# Altium schematic symbol library 2.3 - STM32 F1系列单片机.SchLib: 209 symbols (part 6 of 9)
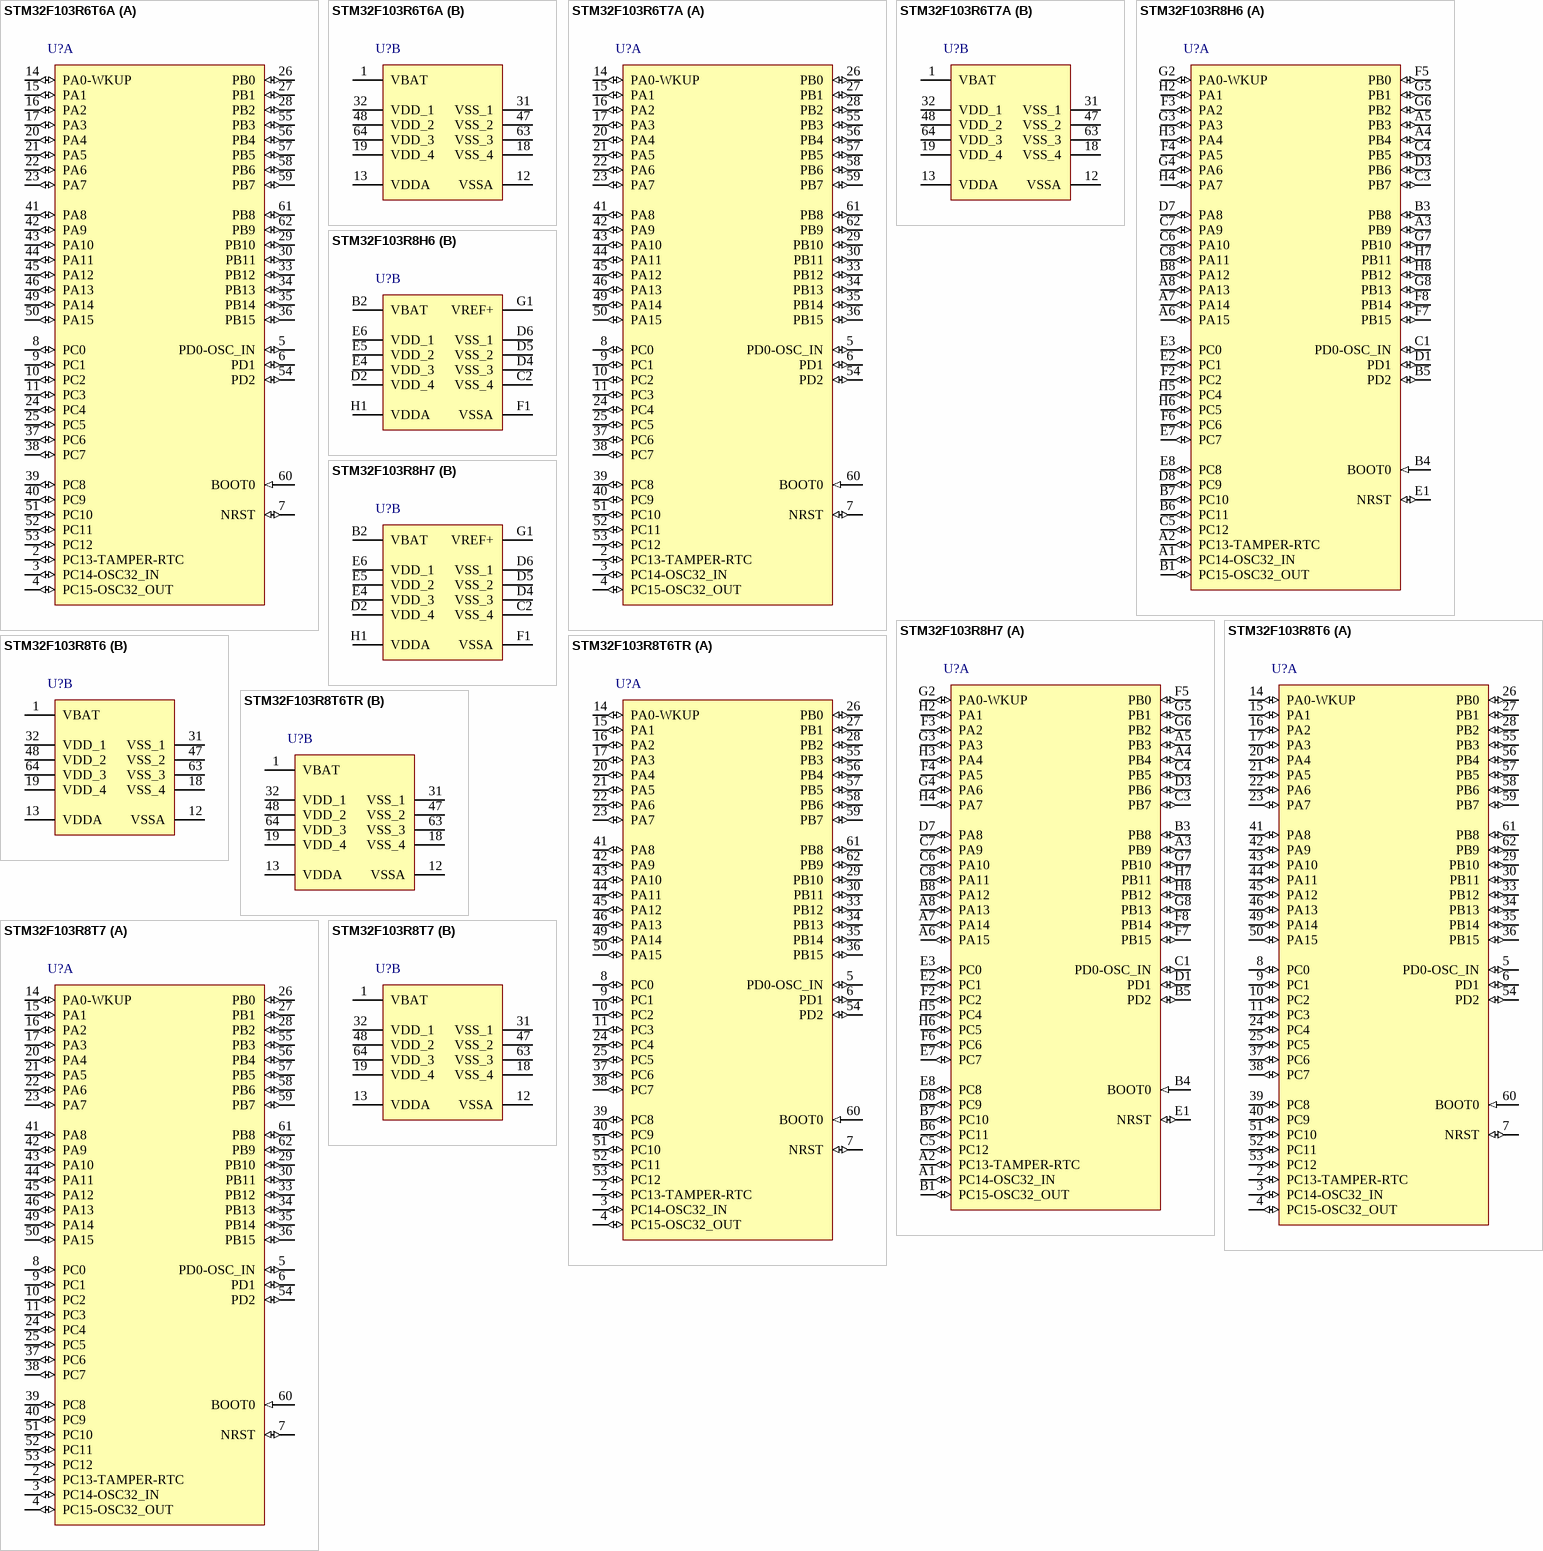
[diagram p47: symbols STM32F103R6T6A to STM32F103R8T7]

## STM32F103R8T6
designator U?
STM32 ARM-based 32-bit MCU Performance Line with 64 kB Flash, 20 kB Internal RAM, -40 to +85癈 Temperature, 64-Pin LQFP, Tray; DatasheetVersion: rev13.0, Apr-2011; PackageVersion: rev13, Apr-2011; PackageReference: LQFP64; PackageDescription: 64-Pin Low-Profile Quad Flat Pack, 10 x 10 mm Body, 0.5 mm Pitch (LQFP64); ComponentLink1Description: Manufacturer URL; ComponentLink1URL: http://www.st.com/; ComponentLink2Description: STM32F103 Datasheet; ComponentLink2URL: http://www.st.com/internet/com/TECHNICAL_RESOURCES/TECHNICAL_LITERATURE/DATASHEET/CD00161566.pdf; ComponentLink3Description: STM32 Family Web Page; ComponentLink3URL: www.st.com/stm32
footprint LQFP64_N (Thin QFP, 64-Leads, Body 10x10mm, Pitch 0.5mm, IPC Medium Density)
footprint LQFP64_L (Thin QFP, 64-Leads, Body 10x10mm, Pitch 0.5mm, IPC High Density)
footprint LQFP64_M (Thin QFP, 64-Leads, Body 10x10mm, Pitch 0.5mm, IPC Low Density)
part A pins: 2 PC13-TAMPER-RTC (io), 3 PC14-OSC32_IN (io), 4 PC15-OSC32_OUT (io), 5 PD0-OSC_IN (io), 6 PD1 (io), 7 NRST (io), 8 PC0 (io), 9 PC1 (io), 10 PC2 (io), 11 PC3 (io), 14 PA0-WKUP (io), 15 PA1 (io), 16 PA2 (io), 17 PA3 (io), 20 PA4 (io), 21 PA5 (io), 22 PA6 (io), 23 PA7 (io), 24 PC4 (io), 25 PC5 (io), 26 PB0 (io), 27 PB1 (io), 28 PB2 (io), 29 PB10 (io), 30 PB11 (io), 33 PB12 (io), 34 PB13 (io), 35 PB14 (io), 36 PB15 (io), 37 PC6 (io), 38 PC7 (io), 39 PC8 (io), 40 PC9 (io), 41 PA8 (io), 42 PA9 (io), 43 PA10 (io), 44 PA11 (io), 45 PA12 (io), 46 PA13 (io), 49 PA14 (io), 50 PA15 (io), 51 PC10 (io), 52 PC11 (io), 53 PC12 (io), 54 PD2 (io), 55 PB3 (io), 56 PB4 (io), 57 PB5 (io), 58 PB6 (io), 59 PB7 (io), 60 BOOT0 (in), 61 PB8 (io), 62 PB9 (io)
part B pins: 1 VBAT (power), 12 VSSA (power), 13 VDDA (power), 18 VSS_4 (power), 19 VDD_4 (power), 31 VSS_1 (power), 32 VDD_1 (power), 47 VSS_2 (power), 48 VDD_2 (power), 63 VSS_3 (power), 64 VDD_3 (power)

## STM32F103R8T6TR
designator U?
STM32 ARM-based 32-bit MCU Performance Line with 64 kB Flash, 20 kB Internal RAM, -40 to +85癈 Temperature, 64-Pin LQFP, Tape and Reel; DatasheetVersion: rev13.0, Apr-2011; PackageVersion: rev13, Apr-2011; PackageReference: LQFP64; PackageDescription: 64-Pin Low-Profile Quad Flat Pack, 10 x 10 mm Body, 0.5 mm Pitch (LQFP64); ComponentLink1Description: Manufacturer URL; ComponentLink1URL: http://www.st.com/; ComponentLink2Description: STM32F103 Datasheet; ComponentLink2URL: http://www.st.com/internet/com/TECHNICAL_RESOURCES/TECHNICAL_LITERATURE/DATASHEET/CD00161566.pdf; ComponentLink3Description: STM32 Family Web Page; ComponentLink3URL: www.st.com/stm32
footprint LQFP64_N (Thin QFP, 64-Leads, Body 10x10mm, Pitch 0.5mm, IPC Medium Density)
footprint LQFP64_L (Thin QFP, 64-Leads, Body 10x10mm, Pitch 0.5mm, IPC High Density)
footprint LQFP64_M (Thin QFP, 64-Leads, Body 10x10mm, Pitch 0.5mm, IPC Low Density)
part A pins: 2 PC13-TAMPER-RTC (io), 3 PC14-OSC32_IN (io), 4 PC15-OSC32_OUT (io), 5 PD0-OSC_IN (io), 6 PD1 (io), 7 NRST (io), 8 PC0 (io), 9 PC1 (io), 10 PC2 (io), 11 PC3 (io), 14 PA0-WKUP (io), 15 PA1 (io), 16 PA2 (io), 17 PA3 (io), 20 PA4 (io), 21 PA5 (io), 22 PA6 (io), 23 PA7 (io), 24 PC4 (io), 25 PC5 (io), 26 PB0 (io), 27 PB1 (io), 28 PB2 (io), 29 PB10 (io), 30 PB11 (io), 33 PB12 (io), 34 PB13 (io), 35 PB14 (io), 36 PB15 (io), 37 PC6 (io), 38 PC7 (io), 39 PC8 (io), 40 PC9 (io), 41 PA8 (io), 42 PA9 (io), 43 PA10 (io), 44 PA11 (io), 45 PA12 (io), 46 PA13 (io), 49 PA14 (io), 50 PA15 (io), 51 PC10 (io), 52 PC11 (io), 53 PC12 (io), 54 PD2 (io), 55 PB3 (io), 56 PB4 (io), 57 PB5 (io), 58 PB6 (io), 59 PB7 (io), 60 BOOT0 (in), 61 PB8 (io), 62 PB9 (io)
part B pins: 1 VBAT (power), 12 VSSA (power), 13 VDDA (power), 18 VSS_4 (power), 19 VDD_4 (power), 31 VSS_1 (power), 32 VDD_1 (power), 47 VSS_2 (power), 48 VDD_2 (power), 63 VSS_3 (power), 64 VDD_3 (power)

## STM32F103R8T7
designator U?
STM32 ARM-based 32-bit MCU Performance Line with 64 kB Flash, 20 kB Internal RAM, -40 to +105癈 Temperature, 64-Pin LQFP, Tray; DatasheetVersion: rev13.0, Apr-2011; PackageVersion: rev13, Apr-2011; PackageReference: LQFP64; PackageDescription: 64-Pin Low-Profile Quad Flat Pack, 10 x 10 mm Body, 0.5 mm Pitch (LQFP64); ComponentLink1Description: Manufacturer URL; ComponentLink1URL: http://www.st.com/; ComponentLink2Description: STM32F103 Datasheet; ComponentLink2URL: http://www.st.com/internet/com/TECHNICAL_RESOURCES/TECHNICAL_LITERATURE/DATASHEET/CD00161566.pdf; ComponentLink3Description: STM32 Family Web Page; ComponentLink3URL: www.st.com/stm32
footprint LQFP64_N (Thin QFP, 64-Leads, Body 10x10mm, Pitch 0.5mm, IPC Medium Density)
footprint LQFP64_L (Thin QFP, 64-Leads, Body 10x10mm, Pitch 0.5mm, IPC High Density)
footprint LQFP64_M (Thin QFP, 64-Leads, Body 10x10mm, Pitch 0.5mm, IPC Low Density)
part A pins: 2 PC13-TAMPER-RTC (io), 3 PC14-OSC32_IN (io), 4 PC15-OSC32_OUT (io), 5 PD0-OSC_IN (io), 6 PD1 (io), 7 NRST (io), 8 PC0 (io), 9 PC1 (io), 10 PC2 (io), 11 PC3 (io), 14 PA0-WKUP (io), 15 PA1 (io), 16 PA2 (io), 17 PA3 (io), 20 PA4 (io), 21 PA5 (io), 22 PA6 (io), 23 PA7 (io), 24 PC4 (io), 25 PC5 (io), 26 PB0 (io), 27 PB1 (io), 28 PB2 (io), 29 PB10 (io), 30 PB11 (io), 33 PB12 (io), 34 PB13 (io), 35 PB14 (io), 36 PB15 (io), 37 PC6 (io), 38 PC7 (io), 39 PC8 (io), 40 PC9 (io), 41 PA8 (io), 42 PA9 (io), 43 PA10 (io), 44 PA11 (io), 45 PA12 (io), 46 PA13 (io), 49 PA14 (io), 50 PA15 (io), 51 PC10 (io), 52 PC11 (io), 53 PC12 (io), 54 PD2 (io), 55 PB3 (io), 56 PB4 (io), 57 PB5 (io), 58 PB6 (io), 59 PB7 (io), 60 BOOT0 (in), 61 PB8 (io), 62 PB9 (io)
part B pins: 1 VBAT (power), 12 VSSA (power), 13 VDDA (power), 18 VSS_4 (power), 19 VDD_4 (power), 31 VSS_1 (power), 32 VDD_1 (power), 47 VSS_2 (power), 48 VDD_2 (power), 63 VSS_3 (power), 64 VDD_3 (power)

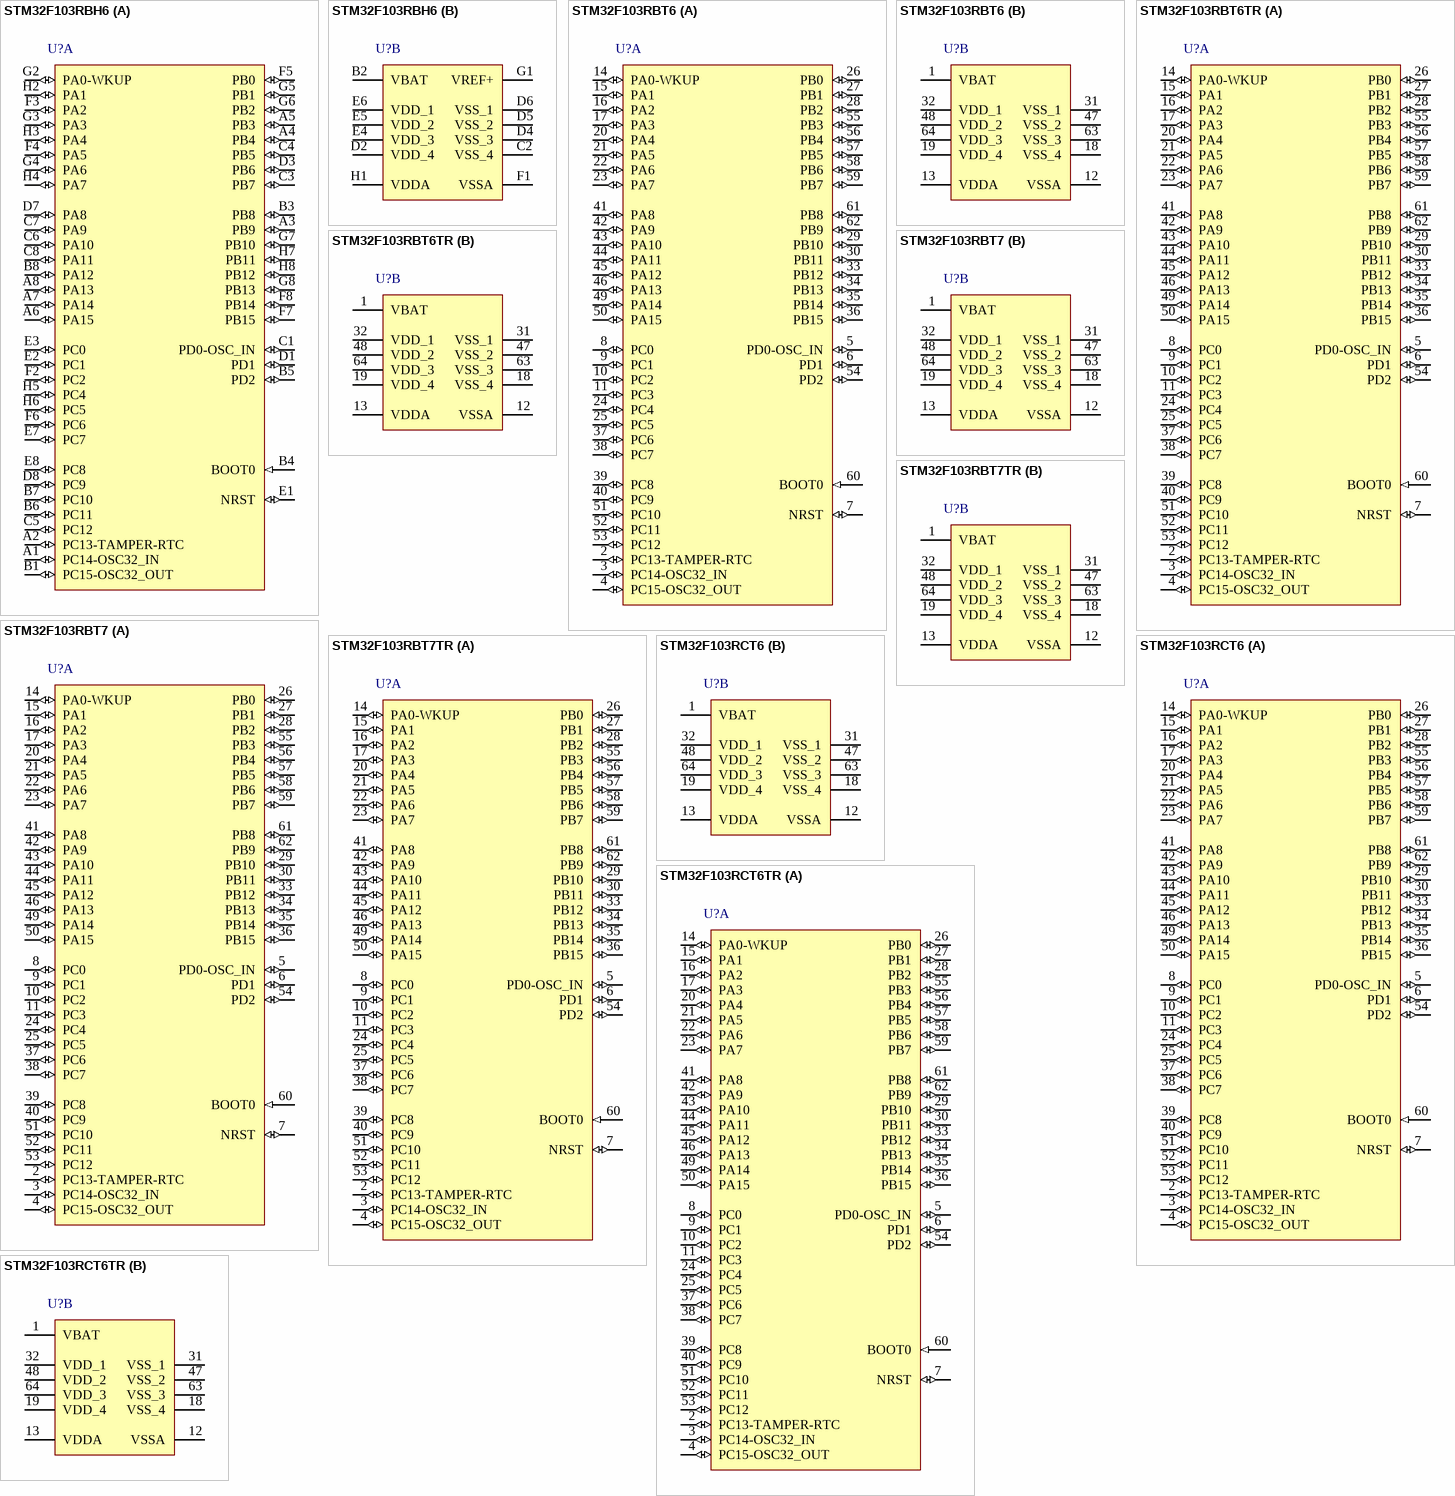
[diagram p23: symbols STM32F103RBH6 to STM32F103RCT6TR]

## STM32F103RBH6
designator U?
STM32 ARM-based 32-bit MCU Performance Line with 128 kB Flash, 20 kB Internal RAM, -40 to +85癈 Temperature, 64-Pin TFBGA, Tray; DatasheetVersion: rev13.0, Apr-2011; PackageVersion: 2011; PackageReference: TFBGA64; PackageDescription: 64-Ball Thin Fine-Pitch BGA (8x8 Array), 5 x 5 mm Body, 0.5 mm Pitch; ComponentLink1Description: Manufacturer URL; ComponentLink1URL: http://www.st.com/; ComponentLink2Description: STM32F103 Datasheet; ComponentLink2URL: http://www.st.com/internet/com/TECHNICAL_RESOURCES/TECHNICAL_LITERATURE/DATASHEET/CD00161566.pdf; ComponentLink3Description: STM32 Family Web Page; ComponentLink3URL: www.st.com/stm32
footprint TFBGA64 (BGA, 64-Leads, Body 5x5mm, Pitch 0.5mm)
part A pins: A1 PC14-OSC32_IN (io), A2 PC13-TAMPER-RTC (io), A3 PB9 (io), A4 PB4 (io), A5 PB3 (io), A6 PA15 (io), A7 PA14 (io), A8 PA13 (io), B1 PC15-OSC32_OUT (io), B3 PB8 (io), B4 BOOT0 (in), B5 PD2 (io), B6 PC11 (io), B7 PC10 (io), B8 PA12 (io), C1 PD0-OSC_IN (io), C3 PB7 (io), C4 PB5 (io), C5 PC12 (io), C6 PA10 (io), C7 PA9 (io), C8 PA11 (io), D1 PD1 (io), D3 PB6 (io), D7 PA8 (io), D8 PC9 (io), E1 NRST (io), E2 PC1 (io), E3 PC0 (io), E7 PC7 (io), E8 PC8 (io), F2 PC2 (io), F3 PA2 (io), F4 PA5 (io), F5 PB0 (io), F6 PC6 (io), F7 PB15 (io), F8 PB14 (io), G2 PA0-WKUP (io), G3 PA3 (io), G4 PA6 (io), G5 PB1 (io), G6 PB2 (io), G7 PB10 (io), G8 PB13 (io), H2 PA1 (io), H3 PA4 (io), H4 PA7 (io), H5 PC4 (io), H6 PC5 (io), H7 PB11 (io), H8 PB12 (io)
part B pins: B2 VBAT (power), C2 VSS_4 (power), D2 VDD_4 (power), D4 VSS_3 (power), D5 VSS_2 (power), D6 VSS_1 (power), E4 VDD_3 (power), E5 VDD_2 (power), E6 VDD_1 (power), F1 VSSA (power), G1 VREF+ (power), H1 VDDA (power)

## STM32F103RBT6
designator U?
STM32 ARM-based 32-bit MCU Performance Line with 128 kB Flash, 20 kB Internal RAM, -40 to +85癈 Temperature, 64-Pin LQFP, Tray; DatasheetVersion: rev13.0, Apr-2011; PackageVersion: rev13, Apr-2011; PackageReference: LQFP64; PackageDescription: 64-Pin Low-Profile Quad Flat Pack, 10 x 10 mm Body, 0.5 mm Pitch (LQFP64); ComponentLink1Description: Manufacturer URL; ComponentLink1URL: http://www.st.com/; ComponentLink2Description: STM32F103 Datasheet; ComponentLink2URL: http://www.st.com/internet/com/TECHNICAL_RESOURCES/TECHNICAL_LITERATURE/DATASHEET/CD00161566.pdf; ComponentLink3Description: STM32 Family Web Page; ComponentLink3URL: www.st.com/stm32
footprint LQFP64_N (Thin QFP, 64-Leads, Body 10x10mm, Pitch 0.5mm, IPC Medium Density)
footprint LQFP64_L (Thin QFP, 64-Leads, Body 10x10mm, Pitch 0.5mm, IPC High Density)
footprint LQFP64_M (Thin QFP, 64-Leads, Body 10x10mm, Pitch 0.5mm, IPC Low Density)
part A pins: 2 PC13-TAMPER-RTC (io), 3 PC14-OSC32_IN (io), 4 PC15-OSC32_OUT (io), 5 PD0-OSC_IN (io), 6 PD1 (io), 7 NRST (io), 8 PC0 (io), 9 PC1 (io), 10 PC2 (io), 11 PC3 (io), 14 PA0-WKUP (io), 15 PA1 (io), 16 PA2 (io), 17 PA3 (io), 20 PA4 (io), 21 PA5 (io), 22 PA6 (io), 23 PA7 (io), 24 PC4 (io), 25 PC5 (io), 26 PB0 (io), 27 PB1 (io), 28 PB2 (io), 29 PB10 (io), 30 PB11 (io), 33 PB12 (io), 34 PB13 (io), 35 PB14 (io), 36 PB15 (io), 37 PC6 (io), 38 PC7 (io), 39 PC8 (io), 40 PC9 (io), 41 PA8 (io), 42 PA9 (io), 43 PA10 (io), 44 PA11 (io), 45 PA12 (io), 46 PA13 (io), 49 PA14 (io), 50 PA15 (io), 51 PC10 (io), 52 PC11 (io), 53 PC12 (io), 54 PD2 (io), 55 PB3 (io), 56 PB4 (io), 57 PB5 (io), 58 PB6 (io), 59 PB7 (io), 60 BOOT0 (in), 61 PB8 (io), 62 PB9 (io)
part B pins: 1 VBAT (power), 12 VSSA (power), 13 VDDA (power), 18 VSS_4 (power), 19 VDD_4 (power), 31 VSS_1 (power), 32 VDD_1 (power), 47 VSS_2 (power), 48 VDD_2 (power), 63 VSS_3 (power), 64 VDD_3 (power)

## STM32F103RBT6TR
designator U?
STM32 ARM-based 32-bit MCU Performance Line with 128 kB Flash, 20 kB Internal RAM, -40 to +85癈 Temperature, 64-Pin LQFP, Tape and Reel; DatasheetVersion: rev13.0, Apr-2011; PackageVersion: rev13, Apr-2011; PackageReference: LQFP64; PackageDescription: 64-Pin Low-Profile Quad Flat Pack, 10 x 10 mm Body, 0.5 mm Pitch (LQFP64); ComponentLink1Description: Manufacturer URL; ComponentLink1URL: http://www.st.com/; ComponentLink2Description: STM32F103 Datasheet; ComponentLink2URL: http://www.st.com/internet/com/TECHNICAL_RESOURCES/TECHNICAL_LITERATURE/DATASHEET/CD00161566.pdf; ComponentLink3Description: STM32 Family Web Page; ComponentLink3URL: www.st.com/stm32
footprint LQFP64_N (Thin QFP, 64-Leads, Body 10x10mm, Pitch 0.5mm, IPC Medium Density)
footprint LQFP64_L (Thin QFP, 64-Leads, Body 10x10mm, Pitch 0.5mm, IPC High Density)
footprint LQFP64_M (Thin QFP, 64-Leads, Body 10x10mm, Pitch 0.5mm, IPC Low Density)
part A pins: 2 PC13-TAMPER-RTC (io), 3 PC14-OSC32_IN (io), 4 PC15-OSC32_OUT (io), 5 PD0-OSC_IN (io), 6 PD1 (io), 7 NRST (io), 8 PC0 (io), 9 PC1 (io), 10 PC2 (io), 11 PC3 (io), 14 PA0-WKUP (io), 15 PA1 (io), 16 PA2 (io), 17 PA3 (io), 20 PA4 (io), 21 PA5 (io), 22 PA6 (io), 23 PA7 (io), 24 PC4 (io), 25 PC5 (io), 26 PB0 (io), 27 PB1 (io), 28 PB2 (io), 29 PB10 (io), 30 PB11 (io), 33 PB12 (io), 34 PB13 (io), 35 PB14 (io), 36 PB15 (io), 37 PC6 (io), 38 PC7 (io), 39 PC8 (io), 40 PC9 (io), 41 PA8 (io), 42 PA9 (io), 43 PA10 (io), 44 PA11 (io), 45 PA12 (io), 46 PA13 (io), 49 PA14 (io), 50 PA15 (io), 51 PC10 (io), 52 PC11 (io), 53 PC12 (io), 54 PD2 (io), 55 PB3 (io), 56 PB4 (io), 57 PB5 (io), 58 PB6 (io), 59 PB7 (io), 60 BOOT0 (in), 61 PB8 (io), 62 PB9 (io)
part B pins: 1 VBAT (power), 12 VSSA (power), 13 VDDA (power), 18 VSS_4 (power), 19 VDD_4 (power), 31 VSS_1 (power), 32 VDD_1 (power), 47 VSS_2 (power), 48 VDD_2 (power), 63 VSS_3 (power), 64 VDD_3 (power)

## STM32F103RBT7
designator U?
STM32 ARM-based 32-bit MCU Performance Line with 128 kB Flash, 20 kB Internal RAM, -40 to +105癈 Temperature, 64-Pin LQFP, Tray; DatasheetVersion: rev13.0, Apr-2011; PackageVersion: rev13, Apr-2011; PackageReference: LQFP64; PackageDescription: 64-Pin Low-Profile Quad Flat Pack, 10 x 10 mm Body, 0.5 mm Pitch (LQFP64); ComponentLink1Description: Manufacturer URL; ComponentLink1URL: http://www.st.com/; ComponentLink2Description: STM32F103 Datasheet; ComponentLink2URL: http://www.st.com/internet/com/TECHNICAL_RESOURCES/TECHNICAL_LITERATURE/DATASHEET/CD00161566.pdf; ComponentLink3Description: STM32 Family Web Page; ComponentLink3URL: www.st.com/stm32
footprint LQFP64_N (Thin QFP, 64-Leads, Body 10x10mm, Pitch 0.5mm, IPC Medium Density)
footprint LQFP64_L (Thin QFP, 64-Leads, Body 10x10mm, Pitch 0.5mm, IPC High Density)
footprint LQFP64_M (Thin QFP, 64-Leads, Body 10x10mm, Pitch 0.5mm, IPC Low Density)
part A pins: 2 PC13-TAMPER-RTC (io), 3 PC14-OSC32_IN (io), 4 PC15-OSC32_OUT (io), 5 PD0-OSC_IN (io), 6 PD1 (io), 7 NRST (io), 8 PC0 (io), 9 PC1 (io), 10 PC2 (io), 11 PC3 (io), 14 PA0-WKUP (io), 15 PA1 (io), 16 PA2 (io), 17 PA3 (io), 20 PA4 (io), 21 PA5 (io), 22 PA6 (io), 23 PA7 (io), 24 PC4 (io), 25 PC5 (io), 26 PB0 (io), 27 PB1 (io), 28 PB2 (io), 29 PB10 (io), 30 PB11 (io), 33 PB12 (io), 34 PB13 (io), 35 PB14 (io), 36 PB15 (io), 37 PC6 (io), 38 PC7 (io), 39 PC8 (io), 40 PC9 (io), 41 PA8 (io), 42 PA9 (io), 43 PA10 (io), 44 PA11 (io), 45 PA12 (io), 46 PA13 (io), 49 PA14 (io), 50 PA15 (io), 51 PC10 (io), 52 PC11 (io), 53 PC12 (io), 54 PD2 (io), 55 PB3 (io), 56 PB4 (io), 57 PB5 (io), 58 PB6 (io), 59 PB7 (io), 60 BOOT0 (in), 61 PB8 (io), 62 PB9 (io)
part B pins: 1 VBAT (power), 12 VSSA (power), 13 VDDA (power), 18 VSS_4 (power), 19 VDD_4 (power), 31 VSS_1 (power), 32 VDD_1 (power), 47 VSS_2 (power), 48 VDD_2 (power), 63 VSS_3 (power), 64 VDD_3 (power)

## STM32F103RBT7TR
designator U?
STM32 ARM-based 32-bit MCU Performance Line with 128 kB Flash, 20 kB Internal RAM, -40 to +105癈 Temperature, 64-Pin LQFP, Tape and Reel; DatasheetVersion: rev13.0, Apr-2011; PackageVersion: rev13, Apr-2011; PackageReference: LQFP64; PackageDescription: 64-Pin Low-Profile Quad Flat Pack, 10 x 10 mm Body, 0.5 mm Pitch (LQFP64); ComponentLink1Description: Manufacturer URL; ComponentLink1URL: http://www.st.com/; ComponentLink2Description: STM32F103 Datasheet; ComponentLink2URL: http://www.st.com/internet/com/TECHNICAL_RESOURCES/TECHNICAL_LITERATURE/DATASHEET/CD00161566.pdf; ComponentLink3Description: STM32 Family Web Page; ComponentLink3URL: www.st.com/stm32
footprint LQFP64_N (Thin QFP, 64-Leads, Body 10x10mm, Pitch 0.5mm, IPC Medium Density)
footprint LQFP64_L (Thin QFP, 64-Leads, Body 10x10mm, Pitch 0.5mm, IPC High Density)
footprint LQFP64_M (Thin QFP, 64-Leads, Body 10x10mm, Pitch 0.5mm, IPC Low Density)
part A pins: 2 PC13-TAMPER-RTC (io), 3 PC14-OSC32_IN (io), 4 PC15-OSC32_OUT (io), 5 PD0-OSC_IN (io), 6 PD1 (io), 7 NRST (io), 8 PC0 (io), 9 PC1 (io), 10 PC2 (io), 11 PC3 (io), 14 PA0-WKUP (io), 15 PA1 (io), 16 PA2 (io), 17 PA3 (io), 20 PA4 (io), 21 PA5 (io), 22 PA6 (io), 23 PA7 (io), 24 PC4 (io), 25 PC5 (io), 26 PB0 (io), 27 PB1 (io), 28 PB2 (io), 29 PB10 (io), 30 PB11 (io), 33 PB12 (io), 34 PB13 (io), 35 PB14 (io), 36 PB15 (io), 37 PC6 (io), 38 PC7 (io), 39 PC8 (io), 40 PC9 (io), 41 PA8 (io), 42 PA9 (io), 43 PA10 (io), 44 PA11 (io), 45 PA12 (io), 46 PA13 (io), 49 PA14 (io), 50 PA15 (io), 51 PC10 (io), 52 PC11 (io), 53 PC12 (io), 54 PD2 (io), 55 PB3 (io), 56 PB4 (io), 57 PB5 (io), 58 PB6 (io), 59 PB7 (io), 60 BOOT0 (in), 61 PB8 (io), 62 PB9 (io)
part B pins: 1 VBAT (power), 12 VSSA (power), 13 VDDA (power), 18 VSS_4 (power), 19 VDD_4 (power), 31 VSS_1 (power), 32 VDD_1 (power), 47 VSS_2 (power), 48 VDD_2 (power), 63 VSS_3 (power), 64 VDD_3 (power)

## STM32F103RCT6
designator U?
STM32 ARM-based 32-bit MCU Performance Line with 256 kB Flash, 48 kB Internal RAM, -40 to +85癈 Temperature, 64-Pin LQFP, Tray; DatasheetVersion: rev8.0, Apr-2011; PackageVersion: rev13, Apr-2011; PackageReference: LQFP64; PackageDescription: 64-Pin Low-Profile Quad Flat Pack, 10 x 10 mm Body, 0.5 mm Pitch (LQFP64); ComponentLink1Description: Manufacturer URL; ComponentLink1URL: http://www.st.com/; ComponentLink2Description: STM32F103 Datasheet; ComponentLink2URL: http://www.st.com/internet/com/TECHNICAL_RESOURCES/TECHNICAL_LITERATURE/DATASHEET/CD00191185.pdf; ComponentLink3Description: STM32 Family Web Page; ComponentLink3URL: www.st.com/stm32
footprint LQFP64_N (Thin QFP, 64-Leads, Body 10x10mm, Pitch 0.5mm, IPC Medium Density)
footprint LQFP64_L (Thin QFP, 64-Leads, Body 10x10mm, Pitch 0.5mm, IPC High Density)
footprint LQFP64_M (Thin QFP, 64-Leads, Body 10x10mm, Pitch 0.5mm, IPC Low Density)
part A pins: 2 PC13-TAMPER-RTC (io), 3 PC14-OSC32_IN (io), 4 PC15-OSC32_OUT (io), 5 PD0-OSC_IN (io), 6 PD1 (io), 7 NRST (io), 8 PC0 (io), 9 PC1 (io), 10 PC2 (io), 11 PC3 (io), 14 PA0-WKUP (io), 15 PA1 (io), 16 PA2 (io), 17 PA3 (io), 20 PA4 (io), 21 PA5 (io), 22 PA6 (io), 23 PA7 (io), 24 PC4 (io), 25 PC5 (io), 26 PB0 (io), 27 PB1 (io), 28 PB2 (io), 29 PB10 (io), 30 PB11 (io), 33 PB12 (io), 34 PB13 (io), 35 PB14 (io), 36 PB15 (io), 37 PC6 (io), 38 PC7 (io), 39 PC8 (io), 40 PC9 (io), 41 PA8 (io), 42 PA9 (io), 43 PA10 (io), 44 PA11 (io), 45 PA12 (io), 46 PA13 (io), 49 PA14 (io), 50 PA15 (io), 51 PC10 (io), 52 PC11 (io), 53 PC12 (io), 54 PD2 (io), 55 PB3 (io), 56 PB4 (io), 57 PB5 (io), 58 PB6 (io), 59 PB7 (io), 60 BOOT0 (in), 61 PB8 (io), 62 PB9 (io)
part B pins: 1 VBAT (power), 12 VSSA (power), 13 VDDA (power), 18 VSS_4 (power), 19 VDD_4 (power), 31 VSS_1 (power), 32 VDD_1 (power), 47 VSS_2 (power), 48 VDD_2 (power), 63 VSS_3 (power), 64 VDD_3 (power)

## STM32F103RCT6TR
designator U?
STM32 ARM-based 32-bit MCU Performance Line with 256 kB Flash, 48 kB Internal RAM, -40 to +85癈 Temperature, 64-Pin LQFP, Tape and Reel; DatasheetVersion: rev8.0, Apr-2011; PackageVersion: rev13, Apr-2011; PackageReference: LQFP64; PackageDescription: 64-Pin Low-Profile Quad Flat Pack, 10 x 10 mm Body, 0.5 mm Pitch (LQFP64); ComponentLink1Description: Manufacturer URL; ComponentLink1URL: http://www.st.com/; ComponentLink2Description: STM32F103 Datasheet; ComponentLink2URL: http://www.st.com/internet/com/TECHNICAL_RESOURCES/TECHNICAL_LITERATURE/DATASHEET/CD00191185.pdf; ComponentLink3Description: STM32 Family Web Page; ComponentLink3URL: www.st.com/stm32
footprint LQFP64_N (Thin QFP, 64-Leads, Body 10x10mm, Pitch 0.5mm, IPC Medium Density)
footprint LQFP64_L (Thin QFP, 64-Leads, Body 10x10mm, Pitch 0.5mm, IPC High Density)
footprint LQFP64_M (Thin QFP, 64-Leads, Body 10x10mm, Pitch 0.5mm, IPC Low Density)
part A pins: 2 PC13-TAMPER-RTC (io), 3 PC14-OSC32_IN (io), 4 PC15-OSC32_OUT (io), 5 PD0-OSC_IN (io), 6 PD1 (io), 7 NRST (io), 8 PC0 (io), 9 PC1 (io), 10 PC2 (io), 11 PC3 (io), 14 PA0-WKUP (io), 15 PA1 (io), 16 PA2 (io), 17 PA3 (io), 20 PA4 (io), 21 PA5 (io), 22 PA6 (io), 23 PA7 (io), 24 PC4 (io), 25 PC5 (io), 26 PB0 (io), 27 PB1 (io), 28 PB2 (io), 29 PB10 (io), 30 PB11 (io), 33 PB12 (io), 34 PB13 (io), 35 PB14 (io), 36 PB15 (io), 37 PC6 (io), 38 PC7 (io), 39 PC8 (io), 40 PC9 (io), 41 PA8 (io), 42 PA9 (io), 43 PA10 (io), 44 PA11 (io), 45 PA12 (io), 46 PA13 (io), 49 PA14 (io), 50 PA15 (io), 51 PC10 (io), 52 PC11 (io), 53 PC12 (io), 54 PD2 (io), 55 PB3 (io), 56 PB4 (io), 57 PB5 (io), 58 PB6 (io), 59 PB7 (io), 60 BOOT0 (in), 61 PB8 (io), 62 PB9 (io)
part B pins: 1 VBAT (power), 12 VSSA (power), 13 VDDA (power), 18 VSS_4 (power), 19 VDD_4 (power), 31 VSS_1 (power), 32 VDD_1 (power), 47 VSS_2 (power), 48 VDD_2 (power), 63 VSS_3 (power), 64 VDD_3 (power)

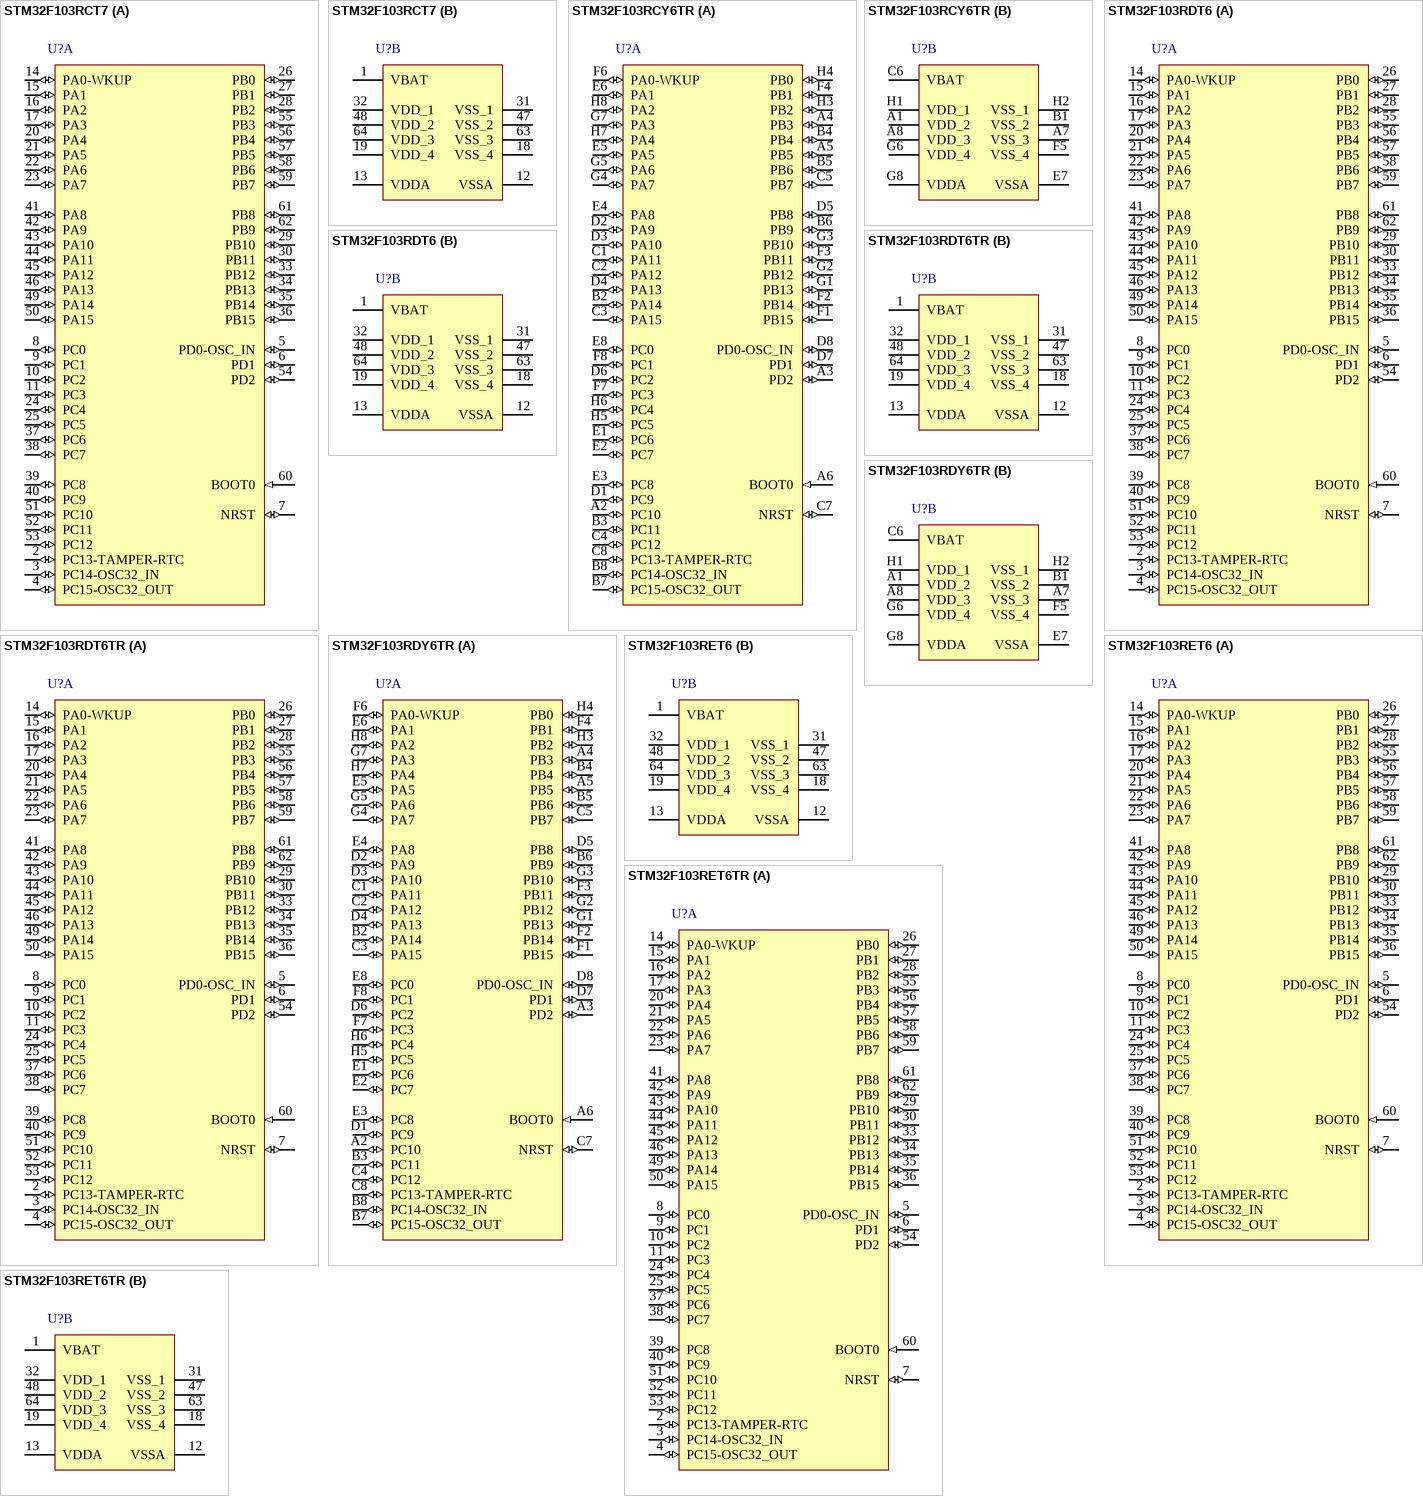
[diagram p24: symbols STM32F103RCT7 to STM32F103RET6TR]

## STM32F103RCT7
designator U?
STM32 ARM-based 32-bit MCU Performance Line with 256 kB Flash, 48 kB Internal RAM, -40 to +105癈 Temperature, 64-Pin LQFP, Tray; DatasheetVersion: rev8.0, Apr-2011; PackageVersion: rev13, Apr-2011; PackageReference: LQFP64; PackageDescription: 64-Pin Low-Profile Quad Flat Pack, 10 x 10 mm Body, 0.5 mm Pitch (LQFP64); ComponentLink1Description: Manufacturer URL; ComponentLink1URL: http://www.st.com/; ComponentLink2Description: STM32F103 Datasheet; ComponentLink2URL: http://www.st.com/internet/com/TECHNICAL_RESOURCES/TECHNICAL_LITERATURE/DATASHEET/CD00191185.pdf; ComponentLink3Description: STM32 Family Web Page; ComponentLink3URL: www.st.com/stm32
footprint LQFP64_N (Thin QFP, 64-Leads, Body 10x10mm, Pitch 0.5mm, IPC Medium Density)
footprint LQFP64_L (Thin QFP, 64-Leads, Body 10x10mm, Pitch 0.5mm, IPC High Density)
footprint LQFP64_M (Thin QFP, 64-Leads, Body 10x10mm, Pitch 0.5mm, IPC Low Density)
part A pins: 2 PC13-TAMPER-RTC (io), 3 PC14-OSC32_IN (io), 4 PC15-OSC32_OUT (io), 5 PD0-OSC_IN (io), 6 PD1 (io), 7 NRST (io), 8 PC0 (io), 9 PC1 (io), 10 PC2 (io), 11 PC3 (io), 14 PA0-WKUP (io), 15 PA1 (io), 16 PA2 (io), 17 PA3 (io), 20 PA4 (io), 21 PA5 (io), 22 PA6 (io), 23 PA7 (io), 24 PC4 (io), 25 PC5 (io), 26 PB0 (io), 27 PB1 (io), 28 PB2 (io), 29 PB10 (io), 30 PB11 (io), 33 PB12 (io), 34 PB13 (io), 35 PB14 (io), 36 PB15 (io), 37 PC6 (io), 38 PC7 (io), 39 PC8 (io), 40 PC9 (io), 41 PA8 (io), 42 PA9 (io), 43 PA10 (io), 44 PA11 (io), 45 PA12 (io), 46 PA13 (io), 49 PA14 (io), 50 PA15 (io), 51 PC10 (io), 52 PC11 (io), 53 PC12 (io), 54 PD2 (io), 55 PB3 (io), 56 PB4 (io), 57 PB5 (io), 58 PB6 (io), 59 PB7 (io), 60 BOOT0 (in), 61 PB8 (io), 62 PB9 (io)
part B pins: 1 VBAT (power), 12 VSSA (power), 13 VDDA (power), 18 VSS_4 (power), 19 VDD_4 (power), 31 VSS_1 (power), 32 VDD_1 (power), 47 VSS_2 (power), 48 VDD_2 (power), 63 VSS_3 (power), 64 VDD_3 (power)

## STM32F103RCY6TR
designator U?
STM32 ARM-based 32-bit MCU Performance Line with 256 kB Flash, 48 kB Internal RAM, -40 to +85癈 Temperature, 64-Pin WLCSP, Tape and Reel; DatasheetVersion: rev8.0, Apr-2011; PackageVersion: 2011; PackageReference: WLCSP64; PackageDescription: 64-Ball Wafer-Level Chip-Scale Package Outline, 4.466 x 4.395 mm Body, 0.5 mm Pitch; ComponentLink1Description: Manufacturer URL; ComponentLink1URL: http://www.st.com/; ComponentLink2Description: STM32F103 Datasheet; ComponentLink2URL: http://www.st.com/internet/com/TECHNICAL_RESOURCES/TECHNICAL_LITERATURE/DATASHEET/CD00191185.pdf; ComponentLink3Description: STM32 Family Web Page; ComponentLink3URL: www.st.com/stm32
footprint WLCSP64 (BGA, 64-Leads, Body 4.395x4.466mm, Pitch 0.5mm)
part A pins: A2 PC10 (io), A3 PD2 (io), A4 PB3 (io), A5 PB5 (io), A6 BOOT0 (in), B2 PA14 (io), B3 PC11 (io), B4 PB4 (io), B5 PB6 (io), B6 PB9 (io), B7 PC15-OSC32_OUT (io), B8 PC14-OSC32_IN (io), C1 PA11 (io), C2 PA12 (io), C3 PA15 (io), C4 PC12 (io), C5 PB7 (io), C7 NRST (io), C8 PC13-TAMPER-RTC (io), D1 PC9 (io), D2 PA9 (io), D3 PA10 (io), D4 PA13 (io), D5 PB8 (io), D6 PC2 (io), D7 PD1 (io), D8 PD0-OSC_IN (io), E1 PC6 (io), E2 PC7 (io), E3 PC8 (io), E4 PA8 (io), E5 PA5 (io), E6 PA1 (io), E8 PC0 (io), F1 PB15 (io), F2 PB14 (io), F3 PB11 (io), F4 PB1 (io), F6 PA0-WKUP (io), F7 PC3 (io), F8 PC1 (io), G1 PB13 (io), G2 PB12 (io), G3 PB10 (io), G4 PA7 (io), G5 PA6 (io), G7 PA3 (io), H3 PB2 (io), H4 PB0 (io), H5 PC5 (io), H6 PC4 (io), H7 PA4 (io), H8 PA2 (io)
part B pins: A1 VDD_2 (power), A7 VSS_3 (power), A8 VDD_3 (power), B1 VSS_2 (power), C6 VBAT (power), E7 VSSA (power), F5 VSS_4 (power), G6 VDD_4 (power), G8 VDDA (power), H1 VDD_1 (power), H2 VSS_1 (power)

## STM32F103RDT6
designator U?
STM32 ARM-based 32-bit MCU Performance Line with 384 kB Flash, 64 kB Internal RAM, -40 to +85癈 Temperature, 64-Pin LQFP, Tray; DatasheetVersion: rev8.0, Apr-2011; PackageVersion: rev13, Apr-2011; PackageReference: LQFP64; PackageDescription: 64-Pin Low-Profile Quad Flat Pack, 10 x 10 mm Body, 0.5 mm Pitch (LQFP64); ComponentLink1Description: Manufacturer URL; ComponentLink1URL: http://www.st.com/; ComponentLink2Description: STM32F103 Datasheet; ComponentLink2URL: http://www.st.com/internet/com/TECHNICAL_RESOURCES/TECHNICAL_LITERATURE/DATASHEET/CD00191185.pdf; ComponentLink3Description: STM32 Family Web Page; ComponentLink3URL: www.st.com/stm32
footprint LQFP64_N (Thin QFP, 64-Leads, Body 10x10mm, Pitch 0.5mm, IPC Medium Density)
footprint LQFP64_L (Thin QFP, 64-Leads, Body 10x10mm, Pitch 0.5mm, IPC High Density)
footprint LQFP64_M (Thin QFP, 64-Leads, Body 10x10mm, Pitch 0.5mm, IPC Low Density)
part A pins: 2 PC13-TAMPER-RTC (io), 3 PC14-OSC32_IN (io), 4 PC15-OSC32_OUT (io), 5 PD0-OSC_IN (io), 6 PD1 (io), 7 NRST (io), 8 PC0 (io), 9 PC1 (io), 10 PC2 (io), 11 PC3 (io), 14 PA0-WKUP (io), 15 PA1 (io), 16 PA2 (io), 17 PA3 (io), 20 PA4 (io), 21 PA5 (io), 22 PA6 (io), 23 PA7 (io), 24 PC4 (io), 25 PC5 (io), 26 PB0 (io), 27 PB1 (io), 28 PB2 (io), 29 PB10 (io), 30 PB11 (io), 33 PB12 (io), 34 PB13 (io), 35 PB14 (io), 36 PB15 (io), 37 PC6 (io), 38 PC7 (io), 39 PC8 (io), 40 PC9 (io), 41 PA8 (io), 42 PA9 (io), 43 PA10 (io), 44 PA11 (io), 45 PA12 (io), 46 PA13 (io), 49 PA14 (io), 50 PA15 (io), 51 PC10 (io), 52 PC11 (io), 53 PC12 (io), 54 PD2 (io), 55 PB3 (io), 56 PB4 (io), 57 PB5 (io), 58 PB6 (io), 59 PB7 (io), 60 BOOT0 (in), 61 PB8 (io), 62 PB9 (io)
part B pins: 1 VBAT (power), 12 VSSA (power), 13 VDDA (power), 18 VSS_4 (power), 19 VDD_4 (power), 31 VSS_1 (power), 32 VDD_1 (power), 47 VSS_2 (power), 48 VDD_2 (power), 63 VSS_3 (power), 64 VDD_3 (power)

## STM32F103RDT6TR
designator U?
STM32 ARM-based 32-bit MCU Performance Line with 384 kB Flash, 64 kB Internal RAM, -40 to +85癈 Temperature, 64-Pin LQFP, Tape and Reel; DatasheetVersion: rev8.0, Apr-2011; PackageVersion: rev13, Apr-2011; PackageReference: LQFP64; PackageDescription: 64-Pin Low-Profile Quad Flat Pack, 10 x 10 mm Body, 0.5 mm Pitch (LQFP64); ComponentLink1Description: Manufacturer URL; ComponentLink1URL: http://www.st.com/; ComponentLink2Description: STM32F103 Datasheet; ComponentLink2URL: http://www.st.com/internet/com/TECHNICAL_RESOURCES/TECHNICAL_LITERATURE/DATASHEET/CD00191185.pdf; ComponentLink3Description: STM32 Family Web Page; ComponentLink3URL: www.st.com/stm32
footprint LQFP64_N (Thin QFP, 64-Leads, Body 10x10mm, Pitch 0.5mm, IPC Medium Density)
footprint LQFP64_L (Thin QFP, 64-Leads, Body 10x10mm, Pitch 0.5mm, IPC High Density)
footprint LQFP64_M (Thin QFP, 64-Leads, Body 10x10mm, Pitch 0.5mm, IPC Low Density)
part A pins: 2 PC13-TAMPER-RTC (io), 3 PC14-OSC32_IN (io), 4 PC15-OSC32_OUT (io), 5 PD0-OSC_IN (io), 6 PD1 (io), 7 NRST (io), 8 PC0 (io), 9 PC1 (io), 10 PC2 (io), 11 PC3 (io), 14 PA0-WKUP (io), 15 PA1 (io), 16 PA2 (io), 17 PA3 (io), 20 PA4 (io), 21 PA5 (io), 22 PA6 (io), 23 PA7 (io), 24 PC4 (io), 25 PC5 (io), 26 PB0 (io), 27 PB1 (io), 28 PB2 (io), 29 PB10 (io), 30 PB11 (io), 33 PB12 (io), 34 PB13 (io), 35 PB14 (io), 36 PB15 (io), 37 PC6 (io), 38 PC7 (io), 39 PC8 (io), 40 PC9 (io), 41 PA8 (io), 42 PA9 (io), 43 PA10 (io), 44 PA11 (io), 45 PA12 (io), 46 PA13 (io), 49 PA14 (io), 50 PA15 (io), 51 PC10 (io), 52 PC11 (io), 53 PC12 (io), 54 PD2 (io), 55 PB3 (io), 56 PB4 (io), 57 PB5 (io), 58 PB6 (io), 59 PB7 (io), 60 BOOT0 (in), 61 PB8 (io), 62 PB9 (io)
part B pins: 1 VBAT (power), 12 VSSA (power), 13 VDDA (power), 18 VSS_4 (power), 19 VDD_4 (power), 31 VSS_1 (power), 32 VDD_1 (power), 47 VSS_2 (power), 48 VDD_2 (power), 63 VSS_3 (power), 64 VDD_3 (power)

## STM32F103RDY6TR
designator U?
STM32 ARM-based 32-bit MCU Performance Line with 384 kB Flash, 64 kB Internal RAM, -40 to +85癈 Temperature, 64-Pin WLCSP, Tape and Reel; DatasheetVersion: rev8.0, Apr-2011; PackageVersion: 2011; PackageReference: WLCSP64; PackageDescription: 64-Ball Wafer-Level Chip-Scale Package Outline, 4.466 x 4.395 mm Body, 0.5 mm Pitch; ComponentLink1Description: Manufacturer URL; ComponentLink1URL: http://www.st.com/; ComponentLink2Description: STM32F103 Datasheet; ComponentLink2URL: http://www.st.com/internet/com/TECHNICAL_RESOURCES/TECHNICAL_LITERATURE/DATASHEET/CD00191185.pdf; ComponentLink3Description: STM32 Family Web Page; ComponentLink3URL: www.st.com/stm32
footprint WLCSP64 (BGA, 64-Leads, Body 4.395x4.466mm, Pitch 0.5mm)
part A pins: A2 PC10 (io), A3 PD2 (io), A4 PB3 (io), A5 PB5 (io), A6 BOOT0 (in), B2 PA14 (io), B3 PC11 (io), B4 PB4 (io), B5 PB6 (io), B6 PB9 (io), B7 PC15-OSC32_OUT (io), B8 PC14-OSC32_IN (io), C1 PA11 (io), C2 PA12 (io), C3 PA15 (io), C4 PC12 (io), C5 PB7 (io), C7 NRST (io), C8 PC13-TAMPER-RTC (io), D1 PC9 (io), D2 PA9 (io), D3 PA10 (io), D4 PA13 (io), D5 PB8 (io), D6 PC2 (io), D7 PD1 (io), D8 PD0-OSC_IN (io), E1 PC6 (io), E2 PC7 (io), E3 PC8 (io), E4 PA8 (io), E5 PA5 (io), E6 PA1 (io), E8 PC0 (io), F1 PB15 (io), F2 PB14 (io), F3 PB11 (io), F4 PB1 (io), F6 PA0-WKUP (io), F7 PC3 (io), F8 PC1 (io), G1 PB13 (io), G2 PB12 (io), G3 PB10 (io), G4 PA7 (io), G5 PA6 (io), G7 PA3 (io), H3 PB2 (io), H4 PB0 (io), H5 PC5 (io), H6 PC4 (io), H7 PA4 (io), H8 PA2 (io)
part B pins: A1 VDD_2 (power), A7 VSS_3 (power), A8 VDD_3 (power), B1 VSS_2 (power), C6 VBAT (power), E7 VSSA (power), F5 VSS_4 (power), G6 VDD_4 (power), G8 VDDA (power), H1 VDD_1 (power), H2 VSS_1 (power)

## STM32F103RET6
designator U?
STM32 ARM-based 32-bit MCU Performance Line with 512 kB Flash, 64 kB Internal RAM, -40 to +85癈 Temperature, 64-Pin LQFP, Tray; DatasheetVersion: rev8.0, Apr-2011; PackageVersion: rev13, Apr-2011; PackageReference: LQFP64; PackageDescription: 64-Pin Low-Profile Quad Flat Pack, 10 x 10 mm Body, 0.5 mm Pitch (LQFP64); ComponentLink1Description: Manufacturer URL; ComponentLink1URL: http://www.st.com/; ComponentLink2Description: STM32F103 Datasheet; ComponentLink2URL: http://www.st.com/internet/com/TECHNICAL_RESOURCES/TECHNICAL_LITERATURE/DATASHEET/CD00191185.pdf; ComponentLink3Description: STM32 Family Web Page; ComponentLink3URL: www.st.com/stm32
footprint LQFP64_N (Thin QFP, 64-Leads, Body 10x10mm, Pitch 0.5mm, IPC Medium Density)
footprint LQFP64_L (Thin QFP, 64-Leads, Body 10x10mm, Pitch 0.5mm, IPC High Density)
footprint LQFP64_M (Thin QFP, 64-Leads, Body 10x10mm, Pitch 0.5mm, IPC Low Density)
part A pins: 2 PC13-TAMPER-RTC (io), 3 PC14-OSC32_IN (io), 4 PC15-OSC32_OUT (io), 5 PD0-OSC_IN (io), 6 PD1 (io), 7 NRST (io), 8 PC0 (io), 9 PC1 (io), 10 PC2 (io), 11 PC3 (io), 14 PA0-WKUP (io), 15 PA1 (io), 16 PA2 (io), 17 PA3 (io), 20 PA4 (io), 21 PA5 (io), 22 PA6 (io), 23 PA7 (io), 24 PC4 (io), 25 PC5 (io), 26 PB0 (io), 27 PB1 (io), 28 PB2 (io), 29 PB10 (io), 30 PB11 (io), 33 PB12 (io), 34 PB13 (io), 35 PB14 (io), 36 PB15 (io), 37 PC6 (io), 38 PC7 (io), 39 PC8 (io), 40 PC9 (io), 41 PA8 (io), 42 PA9 (io), 43 PA10 (io), 44 PA11 (io), 45 PA12 (io), 46 PA13 (io), 49 PA14 (io), 50 PA15 (io), 51 PC10 (io), 52 PC11 (io), 53 PC12 (io), 54 PD2 (io), 55 PB3 (io), 56 PB4 (io), 57 PB5 (io), 58 PB6 (io), 59 PB7 (io), 60 BOOT0 (in), 61 PB8 (io), 62 PB9 (io)
part B pins: 1 VBAT (power), 12 VSSA (power), 13 VDDA (power), 18 VSS_4 (power), 19 VDD_4 (power), 31 VSS_1 (power), 32 VDD_1 (power), 47 VSS_2 (power), 48 VDD_2 (power), 63 VSS_3 (power), 64 VDD_3 (power)

## STM32F103RET6TR
designator U?
STM32 ARM-based 32-bit MCU Performance Line with 512 kB Flash, 64 kB Internal RAM, -40 to +85癈 Temperature, 64-Pin LQFP, Tape and Reel; DatasheetVersion: rev8.0, Apr-2011; PackageVersion: rev13, Apr-2011; PackageReference: LQFP64; PackageDescription: 64-Pin Low-Profile Quad Flat Pack, 10 x 10 mm Body, 0.5 mm Pitch (LQFP64); ComponentLink1Description: Manufacturer URL; ComponentLink1URL: http://www.st.com/; ComponentLink2Description: STM32F103 Datasheet; ComponentLink2URL: http://www.st.com/internet/com/TECHNICAL_RESOURCES/TECHNICAL_LITERATURE/DATASHEET/CD00191185.pdf; ComponentLink3Description: STM32 Family Web Page; ComponentLink3URL: www.st.com/stm32
footprint LQFP64_N (Thin QFP, 64-Leads, Body 10x10mm, Pitch 0.5mm, IPC Medium Density)
footprint LQFP64_L (Thin QFP, 64-Leads, Body 10x10mm, Pitch 0.5mm, IPC High Density)
footprint LQFP64_M (Thin QFP, 64-Leads, Body 10x10mm, Pitch 0.5mm, IPC Low Density)
part A pins: 2 PC13-TAMPER-RTC (io), 3 PC14-OSC32_IN (io), 4 PC15-OSC32_OUT (io), 5 PD0-OSC_IN (io), 6 PD1 (io), 7 NRST (io), 8 PC0 (io), 9 PC1 (io), 10 PC2 (io), 11 PC3 (io), 14 PA0-WKUP (io), 15 PA1 (io), 16 PA2 (io), 17 PA3 (io), 20 PA4 (io), 21 PA5 (io), 22 PA6 (io), 23 PA7 (io), 24 PC4 (io), 25 PC5 (io), 26 PB0 (io), 27 PB1 (io), 28 PB2 (io), 29 PB10 (io), 30 PB11 (io), 33 PB12 (io), 34 PB13 (io), 35 PB14 (io), 36 PB15 (io), 37 PC6 (io), 38 PC7 (io), 39 PC8 (io), 40 PC9 (io), 41 PA8 (io), 42 PA9 (io), 43 PA10 (io), 44 PA11 (io), 45 PA12 (io), 46 PA13 (io), 49 PA14 (io), 50 PA15 (io), 51 PC10 (io), 52 PC11 (io), 53 PC12 (io), 54 PD2 (io), 55 PB3 (io), 56 PB4 (io), 57 PB5 (io), 58 PB6 (io), 59 PB7 (io), 60 BOOT0 (in), 61 PB8 (io), 62 PB9 (io)
part B pins: 1 VBAT (power), 12 VSSA (power), 13 VDDA (power), 18 VSS_4 (power), 19 VDD_4 (power), 31 VSS_1 (power), 32 VDD_1 (power), 47 VSS_2 (power), 48 VDD_2 (power), 63 VSS_3 (power), 64 VDD_3 (power)

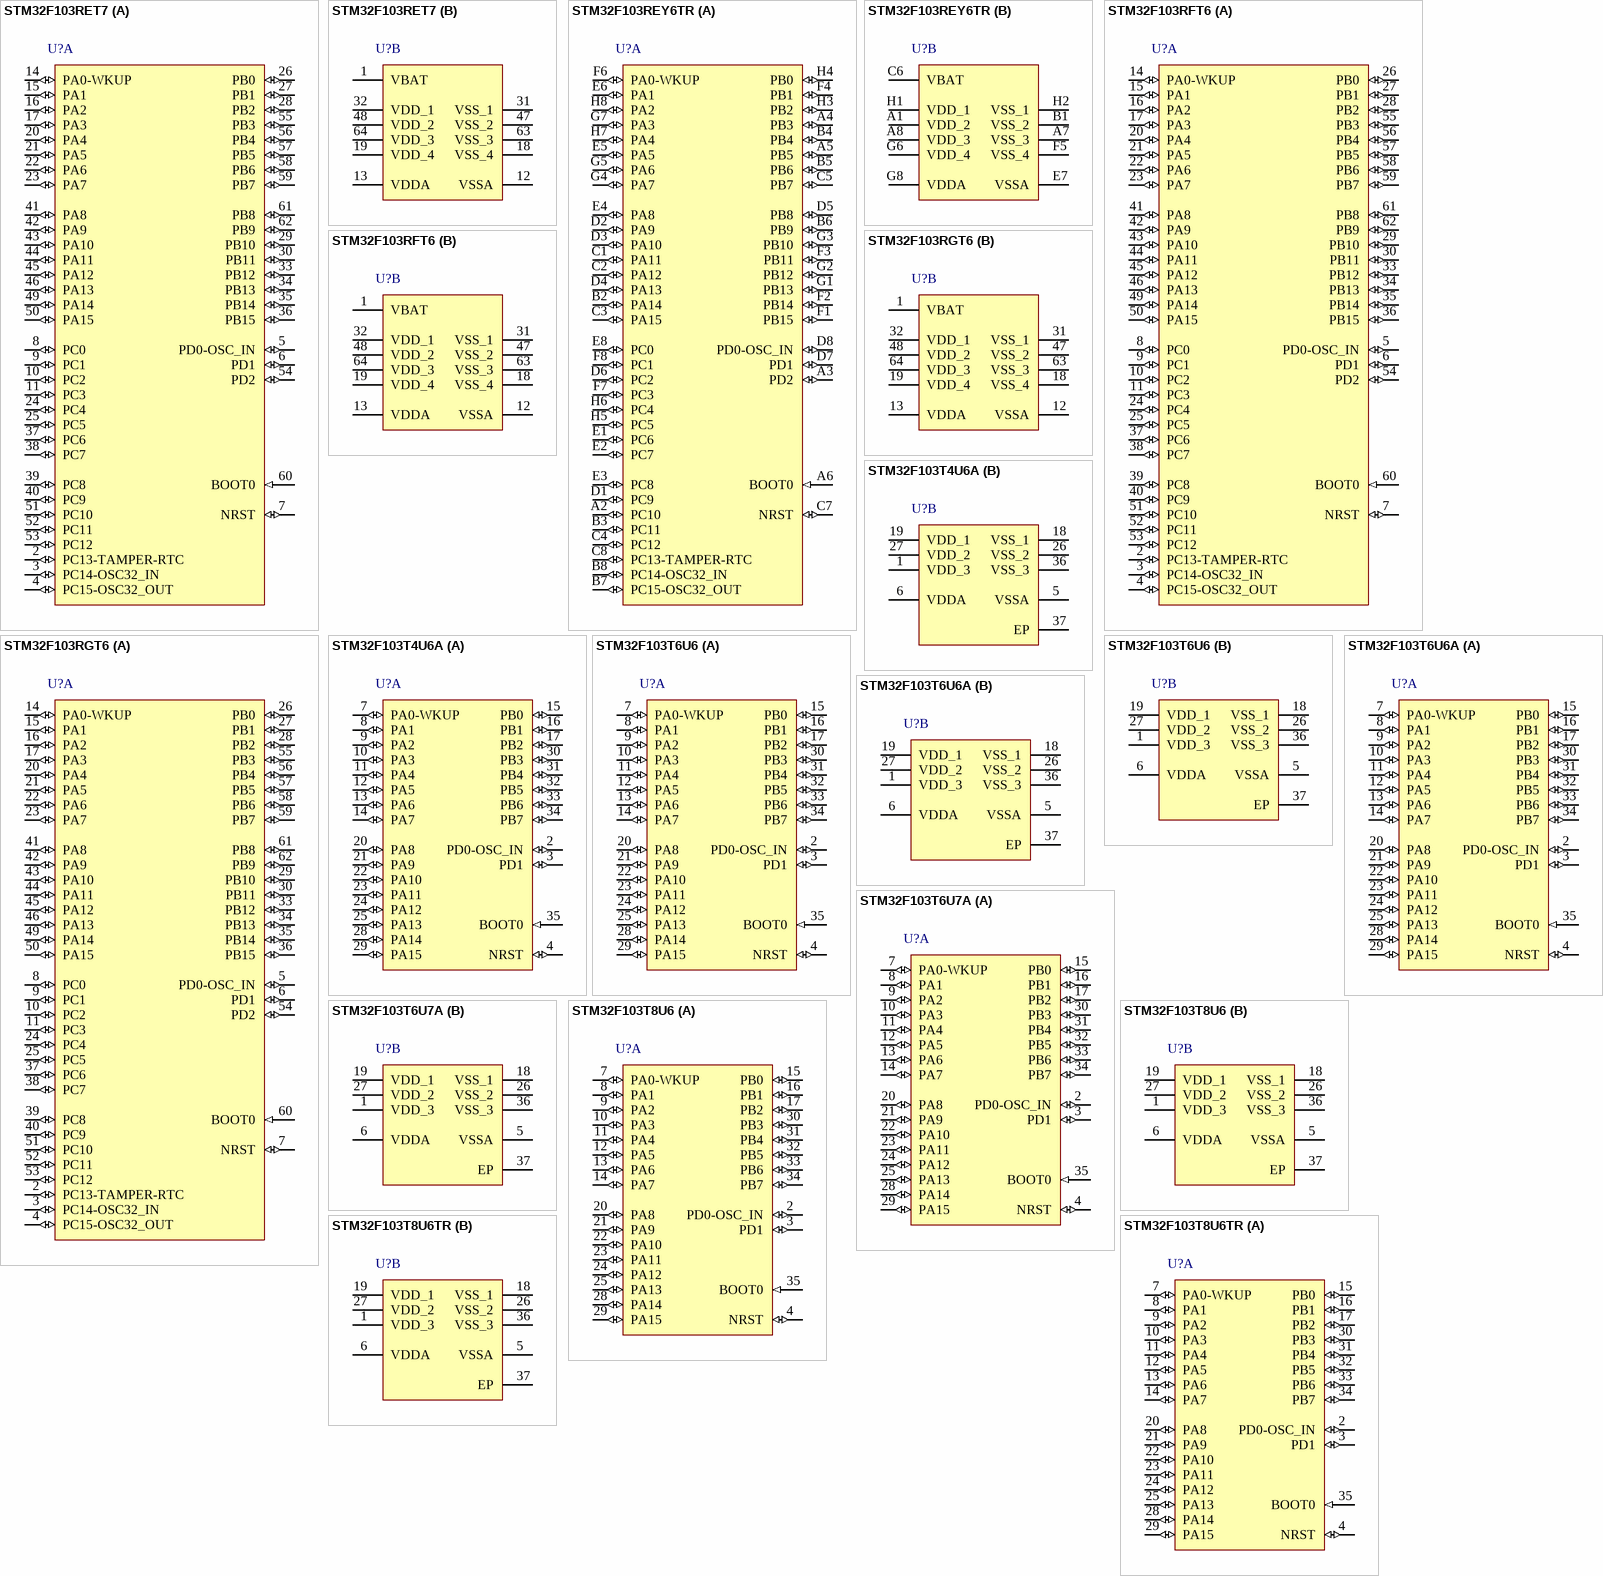
[diagram p25: symbols STM32F103RET7 to STM32F103T8U6TR]

## STM32F103RET7
designator U?
STM32 ARM-based 32-bit MCU Performance Line with 512 kB Flash, 64 kB Internal RAM, -40 to +105癈 Temperature, 64-Pin LQFP, Tray; DatasheetVersion: rev8.0, Apr-2011; PackageVersion: rev13, Apr-2011; PackageReference: LQFP64; PackageDescription: 64-Pin Low-Profile Quad Flat Pack, 10 x 10 mm Body, 0.5 mm Pitch (LQFP64); ComponentLink1Description: Manufacturer URL; ComponentLink1URL: http://www.st.com/; ComponentLink2Description: STM32F103 Datasheet; ComponentLink2URL: http://www.st.com/internet/com/TECHNICAL_RESOURCES/TECHNICAL_LITERATURE/DATASHEET/CD00191185.pdf; ComponentLink3Description: STM32 Family Web Page; ComponentLink3URL: www.st.com/stm32
footprint LQFP64_N (Thin QFP, 64-Leads, Body 10x10mm, Pitch 0.5mm, IPC Medium Density)
footprint LQFP64_L (Thin QFP, 64-Leads, Body 10x10mm, Pitch 0.5mm, IPC High Density)
footprint LQFP64_M (Thin QFP, 64-Leads, Body 10x10mm, Pitch 0.5mm, IPC Low Density)
part A pins: 2 PC13-TAMPER-RTC (io), 3 PC14-OSC32_IN (io), 4 PC15-OSC32_OUT (io), 5 PD0-OSC_IN (io), 6 PD1 (io), 7 NRST (io), 8 PC0 (io), 9 PC1 (io), 10 PC2 (io), 11 PC3 (io), 14 PA0-WKUP (io), 15 PA1 (io), 16 PA2 (io), 17 PA3 (io), 20 PA4 (io), 21 PA5 (io), 22 PA6 (io), 23 PA7 (io), 24 PC4 (io), 25 PC5 (io), 26 PB0 (io), 27 PB1 (io), 28 PB2 (io), 29 PB10 (io), 30 PB11 (io), 33 PB12 (io), 34 PB13 (io), 35 PB14 (io), 36 PB15 (io), 37 PC6 (io), 38 PC7 (io), 39 PC8 (io), 40 PC9 (io), 41 PA8 (io), 42 PA9 (io), 43 PA10 (io), 44 PA11 (io), 45 PA12 (io), 46 PA13 (io), 49 PA14 (io), 50 PA15 (io), 51 PC10 (io), 52 PC11 (io), 53 PC12 (io), 54 PD2 (io), 55 PB3 (io), 56 PB4 (io), 57 PB5 (io), 58 PB6 (io), 59 PB7 (io), 60 BOOT0 (in), 61 PB8 (io), 62 PB9 (io)
part B pins: 1 VBAT (power), 12 VSSA (power), 13 VDDA (power), 18 VSS_4 (power), 19 VDD_4 (power), 31 VSS_1 (power), 32 VDD_1 (power), 47 VSS_2 (power), 48 VDD_2 (power), 63 VSS_3 (power), 64 VDD_3 (power)

## STM32F103REY6TR
designator U?
STM32 ARM-based 32-bit MCU Performance Line with 512 kB Flash, 64 kB Internal RAM, -40 to +85癈 Temperature, 64-Pin WLCSP, Tape and Reel; DatasheetVersion: rev8.0, Apr-2011; PackageVersion: 2011; PackageReference: WLCSP64; PackageDescription: 64-Ball Wafer-Level Chip-Scale Package Outline, 4.466 x 4.395 mm Body, 0.5 mm Pitch; ComponentLink1Description: Manufacturer URL; ComponentLink1URL: http://www.st.com/; ComponentLink2Description: STM32F103 Datasheet; ComponentLink2URL: http://www.st.com/internet/com/TECHNICAL_RESOURCES/TECHNICAL_LITERATURE/DATASHEET/CD00191185.pdf; ComponentLink3Description: STM32 Family Web Page; ComponentLink3URL: www.st.com/stm32
footprint WLCSP64 (BGA, 64-Leads, Body 4.395x4.466mm, Pitch 0.5mm)
part A pins: A2 PC10 (io), A3 PD2 (io), A4 PB3 (io), A5 PB5 (io), A6 BOOT0 (in), B2 PA14 (io), B3 PC11 (io), B4 PB4 (io), B5 PB6 (io), B6 PB9 (io), B7 PC15-OSC32_OUT (io), B8 PC14-OSC32_IN (io), C1 PA11 (io), C2 PA12 (io), C3 PA15 (io), C4 PC12 (io), C5 PB7 (io), C7 NRST (io), C8 PC13-TAMPER-RTC (io), D1 PC9 (io), D2 PA9 (io), D3 PA10 (io), D4 PA13 (io), D5 PB8 (io), D6 PC2 (io), D7 PD1 (io), D8 PD0-OSC_IN (io), E1 PC6 (io), E2 PC7 (io), E3 PC8 (io), E4 PA8 (io), E5 PA5 (io), E6 PA1 (io), E8 PC0 (io), F1 PB15 (io), F2 PB14 (io), F3 PB11 (io), F4 PB1 (io), F6 PA0-WKUP (io), F7 PC3 (io), F8 PC1 (io), G1 PB13 (io), G2 PB12 (io), G3 PB10 (io), G4 PA7 (io), G5 PA6 (io), G7 PA3 (io), H3 PB2 (io), H4 PB0 (io), H5 PC5 (io), H6 PC4 (io), H7 PA4 (io), H8 PA2 (io)
part B pins: A1 VDD_2 (power), A7 VSS_3 (power), A8 VDD_3 (power), B1 VSS_2 (power), C6 VBAT (power), E7 VSSA (power), F5 VSS_4 (power), G6 VDD_4 (power), G8 VDDA (power), H1 VDD_1 (power), H2 VSS_1 (power)

## STM32F103RFT6
designator U?
STM32 ARM-based 32-bit MCU Performance Line with 768 kB Flash, 96 kB Internal RAM, -40 to +85癈 Temperature, 64-Pin LQFP, Tray; DatasheetVersion: rev2.0, Nov-2010; PackageVersion: rev13, Apr-2011; PackageReference: LQFP64; PackageDescription: 64-Pin Low-Profile Quad Flat Pack, 10 x 10 mm Body, 0.5 mm Pitch (LQFP64); ComponentLink1Description: Manufacturer URL; ComponentLink1URL: http://www.st.com/; ComponentLink2Description: STM32F103 Datasheet; ComponentLink2URL: http://www.st.com/internet/com/TECHNICAL_RESOURCES/TECHNICAL_LITERATURE/DATASHEET/CD00253742.pdf; ComponentLink3Description: STM32 Family Web Page; ComponentLink3URL: www.st.com/stm32
footprint LQFP64_N (Thin QFP, 64-Leads, Body 10x10mm, Pitch 0.5mm, IPC Medium Density)
footprint LQFP64_L (Thin QFP, 64-Leads, Body 10x10mm, Pitch 0.5mm, IPC High Density)
footprint LQFP64_M (Thin QFP, 64-Leads, Body 10x10mm, Pitch 0.5mm, IPC Low Density)
part A pins: 2 PC13-TAMPER-RTC (io), 3 PC14-OSC32_IN (io), 4 PC15-OSC32_OUT (io), 5 PD0-OSC_IN (io), 6 PD1 (io), 7 NRST (io), 8 PC0 (io), 9 PC1 (io), 10 PC2 (io), 11 PC3 (io), 14 PA0-WKUP (io), 15 PA1 (io), 16 PA2 (io), 17 PA3 (io), 20 PA4 (io), 21 PA5 (io), 22 PA6 (io), 23 PA7 (io), 24 PC4 (io), 25 PC5 (io), 26 PB0 (io), 27 PB1 (io), 28 PB2 (io), 29 PB10 (io), 30 PB11 (io), 33 PB12 (io), 34 PB13 (io), 35 PB14 (io), 36 PB15 (io), 37 PC6 (io), 38 PC7 (io), 39 PC8 (io), 40 PC9 (io), 41 PA8 (io), 42 PA9 (io), 43 PA10 (io), 44 PA11 (io), 45 PA12 (io), 46 PA13 (io), 49 PA14 (io), 50 PA15 (io), 51 PC10 (io), 52 PC11 (io), 53 PC12 (io), 54 PD2 (io), 55 PB3 (io), 56 PB4 (io), 57 PB5 (io), 58 PB6 (io), 59 PB7 (io), 60 BOOT0 (in), 61 PB8 (io), 62 PB9 (io)
part B pins: 1 VBAT (power), 12 VSSA (power), 13 VDDA (power), 18 VSS_4 (power), 19 VDD_4 (power), 31 VSS_1 (power), 32 VDD_1 (power), 47 VSS_2 (power), 48 VDD_2 (power), 63 VSS_3 (power), 64 VDD_3 (power)

## STM32F103RGT6
designator U?
STM32 ARM-based 32-bit MCU Performance Line with 1024 kB Flash, 96 kB Internal RAM, -40 to +85癈 Temperature, 64-Pin LQFP, Tray; DatasheetVersion: rev2.0, Nov-2010; PackageVersion: rev13, Apr-2011; PackageReference: LQFP64; PackageDescription: 64-Pin Low-Profile Quad Flat Pack, 10 x 10 mm Body, 0.5 mm Pitch (LQFP64); ComponentLink1Description: Manufacturer URL; ComponentLink1URL: http://www.st.com/; ComponentLink2Description: STM32F103 Datasheet; ComponentLink2URL: http://www.st.com/internet/com/TECHNICAL_RESOURCES/TECHNICAL_LITERATURE/DATASHEET/CD00253742.pdf; ComponentLink3Description: STM32 Family Web Page; ComponentLink3URL: www.st.com/stm32
footprint LQFP64_N (Thin QFP, 64-Leads, Body 10x10mm, Pitch 0.5mm, IPC Medium Density)
footprint LQFP64_L (Thin QFP, 64-Leads, Body 10x10mm, Pitch 0.5mm, IPC High Density)
footprint LQFP64_M (Thin QFP, 64-Leads, Body 10x10mm, Pitch 0.5mm, IPC Low Density)
part A pins: 2 PC13-TAMPER-RTC (io), 3 PC14-OSC32_IN (io), 4 PC15-OSC32_OUT (io), 5 PD0-OSC_IN (io), 6 PD1 (io), 7 NRST (io), 8 PC0 (io), 9 PC1 (io), 10 PC2 (io), 11 PC3 (io), 14 PA0-WKUP (io), 15 PA1 (io), 16 PA2 (io), 17 PA3 (io), 20 PA4 (io), 21 PA5 (io), 22 PA6 (io), 23 PA7 (io), 24 PC4 (io), 25 PC5 (io), 26 PB0 (io), 27 PB1 (io), 28 PB2 (io), 29 PB10 (io), 30 PB11 (io), 33 PB12 (io), 34 PB13 (io), 35 PB14 (io), 36 PB15 (io), 37 PC6 (io), 38 PC7 (io), 39 PC8 (io), 40 PC9 (io), 41 PA8 (io), 42 PA9 (io), 43 PA10 (io), 44 PA11 (io), 45 PA12 (io), 46 PA13 (io), 49 PA14 (io), 50 PA15 (io), 51 PC10 (io), 52 PC11 (io), 53 PC12 (io), 54 PD2 (io), 55 PB3 (io), 56 PB4 (io), 57 PB5 (io), 58 PB6 (io), 59 PB7 (io), 60 BOOT0 (in), 61 PB8 (io), 62 PB9 (io)
part B pins: 1 VBAT (power), 12 VSSA (power), 13 VDDA (power), 18 VSS_4 (power), 19 VDD_4 (power), 31 VSS_1 (power), 32 VDD_1 (power), 47 VSS_2 (power), 48 VDD_2 (power), 63 VSS_3 (power), 64 VDD_3 (power)

## STM32F103T4U6A
designator U?
STM32 ARM-based 32-bit MCU Performance Line with 16 kB Flash, 6 kB Internal RAM, Internal Code A, -40 to +85癈 Temperature, 36-Pin VFQFPN, Tray; DatasheetVersion: rev5.0, Apr-2011; PackageVersion: 2011; PackageReference: VFQFPN36; PackageDescription: 36-Pin Quad Flat No-Lead, 6 x 6 X 1.0 mm Body, 0.5 mm Pitch, Exposed Pad; ComponentLink1Description: Manufacturer URL; ComponentLink1URL: http://www.st.com/; ComponentLink2Description: STM32F103 Datasheet; ComponentLink2URL: http://www.st.com/internet/com/TECHNICAL_RESOURCES/TECHNICAL_LITERATURE/DATASHEET/CD00210843.pdf; ComponentLink3Description: STM32 Family Web Page; ComponentLink3URL: www.st.com/stm32
footprint VFQFPN36_N (QFN, 36-Leads, Body 6x6mm, Pitch 0.5mm, Thermal Pad 4.3x4.3mm, IPC Medium Density)
footprint VFQFPN36_L (QFN, 36-Leads, Body 6x6mm, Pitch 0.5mm, Thermal Pad 4.3x4.3mm, IPC High Density)
footprint VFQFPN36_M (QFN, 36-Leads, Body 6x6mm, Pitch 0.5mm, Thermal Pad 4.3x4.3mm, IPC Low Density)
part A pins: 2 PD0-OSC_IN (io), 3 PD1 (io), 4 NRST (io), 7 PA0-WKUP (io), 8 PA1 (io), 9 PA2 (io), 10 PA3 (io), 11 PA4 (io), 12 PA5 (io), 13 PA6 (io), 14 PA7 (io), 15 PB0 (io), 16 PB1 (io), 17 PB2 (io), 20 PA8 (io), 21 PA9 (io), 22 PA10 (io), 23 PA11 (io), 24 PA12 (io), 25 PA13 (io), 28 PA14 (io), 29 PA15 (io), 30 PB3 (io), 31 PB4 (io), 32 PB5 (io), 33 PB6 (io), 34 PB7 (io), 35 BOOT0 (in)
part B pins: 1 VDD_3 (power), 5 VSSA (power), 6 VDDA (power), 18 VSS_1 (power), 19 VDD_1 (power), 26 VSS_2 (power), 27 VDD_2 (power), 36 VSS_3 (power), 37 EP (power)

## STM32F103T6U6
designator U?
STM32 ARM-based 32-bit MCU Performance Line with 32 kB Flash, 10 kB Internal RAM, Internal Code A, -40 to +85癈 Temperature, 36-Pin VFQFPN, Tray; DatasheetVersion: rev5.0, Apr-2011; PackageVersion: 2011; PackageReference: VFQFPN36; PackageDescription: 36-Pin Quad Flat No-Lead, 6 x 6 X 1.0 mm Body, 0.5 mm Pitch, Exposed Pad; ComponentLink1Description: Manufacturer URL; ComponentLink1URL: http://www.st.com/; ComponentLink2Description: STM32F103 Datasheet; ComponentLink2URL: http://www.st.com/internet/com/TECHNICAL_RESOURCES/TECHNICAL_LITERATURE/DATASHEET/CD00210843.pdf; ComponentLink3Description: STM32 Family Web Page; ComponentLink3URL: www.st.com/stm32
footprint VFQFPN36_N (QFN, 36-Leads, Body 6x6mm, Pitch 0.5mm, Thermal Pad 4.3x4.3mm, IPC Medium Density)
footprint VFQFPN36_L (QFN, 36-Leads, Body 6x6mm, Pitch 0.5mm, Thermal Pad 4.3x4.3mm, IPC High Density)
footprint VFQFPN36_M (QFN, 36-Leads, Body 6x6mm, Pitch 0.5mm, Thermal Pad 4.3x4.3mm, IPC Low Density)
part A pins: 2 PD0-OSC_IN (io), 3 PD1 (io), 4 NRST (io), 7 PA0-WKUP (io), 8 PA1 (io), 9 PA2 (io), 10 PA3 (io), 11 PA4 (io), 12 PA5 (io), 13 PA6 (io), 14 PA7 (io), 15 PB0 (io), 16 PB1 (io), 17 PB2 (io), 20 PA8 (io), 21 PA9 (io), 22 PA10 (io), 23 PA11 (io), 24 PA12 (io), 25 PA13 (io), 28 PA14 (io), 29 PA15 (io), 30 PB3 (io), 31 PB4 (io), 32 PB5 (io), 33 PB6 (io), 34 PB7 (io), 35 BOOT0 (in)
part B pins: 1 VDD_3 (power), 5 VSSA (power), 6 VDDA (power), 18 VSS_1 (power), 19 VDD_1 (power), 26 VSS_2 (power), 27 VDD_2 (power), 36 VSS_3 (power), 37 EP (power)

## STM32F103T6U6A
designator U?
STM32 ARM-based 32-bit MCU Performance Line with 32 kB Flash, 10 kB Internal RAM, Internal Code A, -40 to +85癈 Temperature, 36-Pin VFQFPN, Tray; DatasheetVersion: rev5.0, Apr-2011; PackageVersion: 2011; PackageReference: VFQFPN36; PackageDescription: 36-Pin Quad Flat No-Lead, 6 x 6 X 1.0 mm Body, 0.5 mm Pitch, Exposed Pad; ComponentLink1Description: Manufacturer URL; ComponentLink1URL: http://www.st.com/; ComponentLink2Description: STM32F103 Datasheet; ComponentLink2URL: http://www.st.com/internet/com/TECHNICAL_RESOURCES/TECHNICAL_LITERATURE/DATASHEET/CD00210843.pdf; ComponentLink3Description: STM32 Family Web Page; ComponentLink3URL: www.st.com/stm32
footprint VFQFPN36_N (QFN, 36-Leads, Body 6x6mm, Pitch 0.5mm, Thermal Pad 4.3x4.3mm, IPC Medium Density)
footprint VFQFPN36_L (QFN, 36-Leads, Body 6x6mm, Pitch 0.5mm, Thermal Pad 4.3x4.3mm, IPC High Density)
footprint VFQFPN36_M (QFN, 36-Leads, Body 6x6mm, Pitch 0.5mm, Thermal Pad 4.3x4.3mm, IPC Low Density)
part A pins: 2 PD0-OSC_IN (io), 3 PD1 (io), 4 NRST (io), 7 PA0-WKUP (io), 8 PA1 (io), 9 PA2 (io), 10 PA3 (io), 11 PA4 (io), 12 PA5 (io), 13 PA6 (io), 14 PA7 (io), 15 PB0 (io), 16 PB1 (io), 17 PB2 (io), 20 PA8 (io), 21 PA9 (io), 22 PA10 (io), 23 PA11 (io), 24 PA12 (io), 25 PA13 (io), 28 PA14 (io), 29 PA15 (io), 30 PB3 (io), 31 PB4 (io), 32 PB5 (io), 33 PB6 (io), 34 PB7 (io), 35 BOOT0 (in)
part B pins: 1 VDD_3 (power), 5 VSSA (power), 6 VDDA (power), 18 VSS_1 (power), 19 VDD_1 (power), 26 VSS_2 (power), 27 VDD_2 (power), 36 VSS_3 (power), 37 EP (power)

## STM32F103T6U7A
designator U?
STM32 ARM-based 32-bit MCU Performance Line with 32 kB Flash, 10 kB Internal RAM, Internal Code A, -40 to +105癈 Temperature, 36-Pin VFQFPN; DatasheetVersion: rev5.0, Apr-2011; PackageVersion: 2011; PackageReference: VFQFPN36; PackageDescription: 36-Pin Quad Flat No-Lead, 6 x 6 X 1.0 mm Body, 0.5 mm Pitch, Exposed Pad; ComponentLink1Description: Manufacturer URL; ComponentLink1URL: http://www.st.com/; ComponentLink2Description: STM32F103 Datasheet; ComponentLink2URL: http://www.st.com/internet/com/TECHNICAL_RESOURCES/TECHNICAL_LITERATURE/DATASHEET/CD00210843.pdf; ComponentLink3Description: STM32 Family Web Page; ComponentLink3URL: www.st.com/stm32
footprint VFQFPN36_N (QFN, 36-Leads, Body 6x6mm, Pitch 0.5mm, Thermal Pad 4.3x4.3mm, IPC Medium Density)
footprint VFQFPN36_L (QFN, 36-Leads, Body 6x6mm, Pitch 0.5mm, Thermal Pad 4.3x4.3mm, IPC High Density)
footprint VFQFPN36_M (QFN, 36-Leads, Body 6x6mm, Pitch 0.5mm, Thermal Pad 4.3x4.3mm, IPC Low Density)
part A pins: 2 PD0-OSC_IN (io), 3 PD1 (io), 4 NRST (io), 7 PA0-WKUP (io), 8 PA1 (io), 9 PA2 (io), 10 PA3 (io), 11 PA4 (io), 12 PA5 (io), 13 PA6 (io), 14 PA7 (io), 15 PB0 (io), 16 PB1 (io), 17 PB2 (io), 20 PA8 (io), 21 PA9 (io), 22 PA10 (io), 23 PA11 (io), 24 PA12 (io), 25 PA13 (io), 28 PA14 (io), 29 PA15 (io), 30 PB3 (io), 31 PB4 (io), 32 PB5 (io), 33 PB6 (io), 34 PB7 (io), 35 BOOT0 (in)
part B pins: 1 VDD_3 (power), 5 VSSA (power), 6 VDDA (power), 18 VSS_1 (power), 19 VDD_1 (power), 26 VSS_2 (power), 27 VDD_2 (power), 36 VSS_3 (power), 37 EP (power)

## STM32F103T8U6
designator U?
STM32 ARM-based 32-bit MCU Performance Line with 64 kB Flash, 20 kB Internal RAM, -40 to +85癈 Temperature, 36-Pin VFQFPN, Tray; DatasheetVersion: rev13.0, Apr-2011; PackageVersion: 2011; PackageReference: VFQFPN36; PackageDescription: 36-Pin Quad Flat No-Lead, 6 x 6 X 1.0 mm Body, 0.5 mm Pitch, Exposed Pad; ComponentLink1Description: Manufacturer URL; ComponentLink1URL: http://www.st.com/; ComponentLink2Description: STM32F103 Datasheet; ComponentLink2URL: http://www.st.com/internet/com/TECHNICAL_RESOURCES/TECHNICAL_LITERATURE/DATASHEET/CD00161566.pdf; ComponentLink3Description: STM32 Family Web Page; ComponentLink3URL: www.st.com/stm32
footprint VFQFPN36_N (QFN, 36-Leads, Body 6x6mm, Pitch 0.5mm, Thermal Pad 4.3x4.3mm, IPC Medium Density)
footprint VFQFPN36_L (QFN, 36-Leads, Body 6x6mm, Pitch 0.5mm, Thermal Pad 4.3x4.3mm, IPC High Density)
footprint VFQFPN36_M (QFN, 36-Leads, Body 6x6mm, Pitch 0.5mm, Thermal Pad 4.3x4.3mm, IPC Low Density)
part A pins: 2 PD0-OSC_IN (io), 3 PD1 (io), 4 NRST (io), 7 PA0-WKUP (io), 8 PA1 (io), 9 PA2 (io), 10 PA3 (io), 11 PA4 (io), 12 PA5 (io), 13 PA6 (io), 14 PA7 (io), 15 PB0 (io), 16 PB1 (io), 17 PB2 (io), 20 PA8 (io), 21 PA9 (io), 22 PA10 (io), 23 PA11 (io), 24 PA12 (io), 25 PA13 (io), 28 PA14 (io), 29 PA15 (io), 30 PB3 (io), 31 PB4 (io), 32 PB5 (io), 33 PB6 (io), 34 PB7 (io), 35 BOOT0 (in)
part B pins: 1 VDD_3 (power), 5 VSSA (power), 6 VDDA (power), 18 VSS_1 (power), 19 VDD_1 (power), 26 VSS_2 (power), 27 VDD_2 (power), 36 VSS_3 (power), 37 EP (power)

## STM32F103T8U6TR
designator U?
STM32 ARM-based 32-bit MCU Performance Line with 64 kB Flash, 20 kB Internal RAM, -40 to +85癈 Temperature, 36-Pin VFQFPN, Tape and Reel; DatasheetVersion: rev13.0, Apr-2011; PackageVersion: 2011; PackageReference: VFQFPN36; PackageDescription: 36-Pin Quad Flat No-Lead, 6 x 6 X 1.0 mm Body, 0.5 mm Pitch, Exposed Pad; ComponentLink1Description: Manufacturer URL; ComponentLink1URL: http://www.st.com/; ComponentLink2Description: STM32F103 Datasheet; ComponentLink2URL: http://www.st.com/internet/com/TECHNICAL_RESOURCES/TECHNICAL_LITERATURE/DATASHEET/CD00161566.pdf; ComponentLink3Description: STM32 Family Web Page; ComponentLink3URL: www.st.com/stm32
footprint VFQFPN36_N (QFN, 36-Leads, Body 6x6mm, Pitch 0.5mm, Thermal Pad 4.3x4.3mm, IPC Medium Density)
footprint VFQFPN36_L (QFN, 36-Leads, Body 6x6mm, Pitch 0.5mm, Thermal Pad 4.3x4.3mm, IPC High Density)
footprint VFQFPN36_M (QFN, 36-Leads, Body 6x6mm, Pitch 0.5mm, Thermal Pad 4.3x4.3mm, IPC Low Density)
part A pins: 2 PD0-OSC_IN (io), 3 PD1 (io), 4 NRST (io), 7 PA0-WKUP (io), 8 PA1 (io), 9 PA2 (io), 10 PA3 (io), 11 PA4 (io), 12 PA5 (io), 13 PA6 (io), 14 PA7 (io), 15 PB0 (io), 16 PB1 (io), 17 PB2 (io), 20 PA8 (io), 21 PA9 (io), 22 PA10 (io), 23 PA11 (io), 24 PA12 (io), 25 PA13 (io), 28 PA14 (io), 29 PA15 (io), 30 PB3 (io), 31 PB4 (io), 32 PB5 (io), 33 PB6 (io), 34 PB7 (io), 35 BOOT0 (in)
part B pins: 1 VDD_3 (power), 5 VSSA (power), 6 VDDA (power), 18 VSS_1 (power), 19 VDD_1 (power), 26 VSS_2 (power), 27 VDD_2 (power), 36 VSS_3 (power), 37 EP (power)

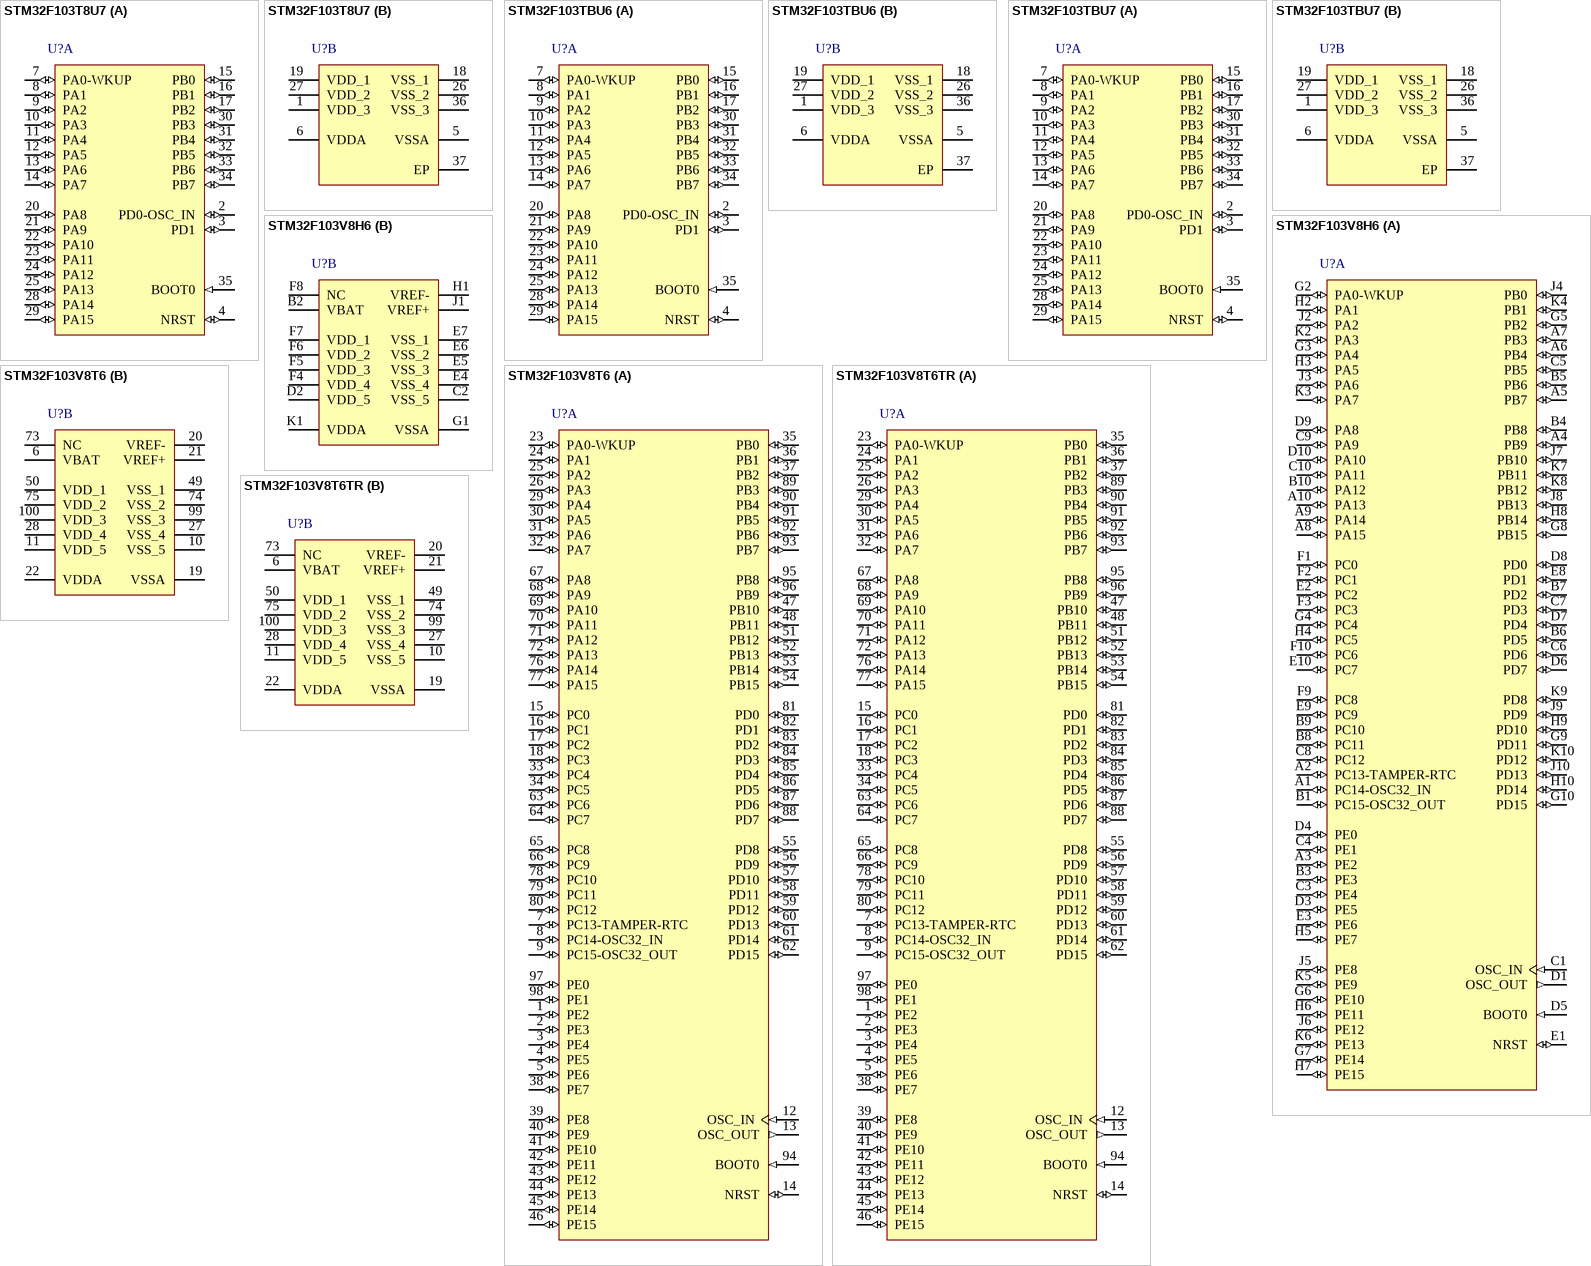
[diagram p26: symbols STM32F103T8U7 to STM32F103V8T6TR]